# Altium schematic symbol library 45xx.SCHLIB: 116 symbols
Pins are listed as number, name and electrical type; pins without a type are passive.

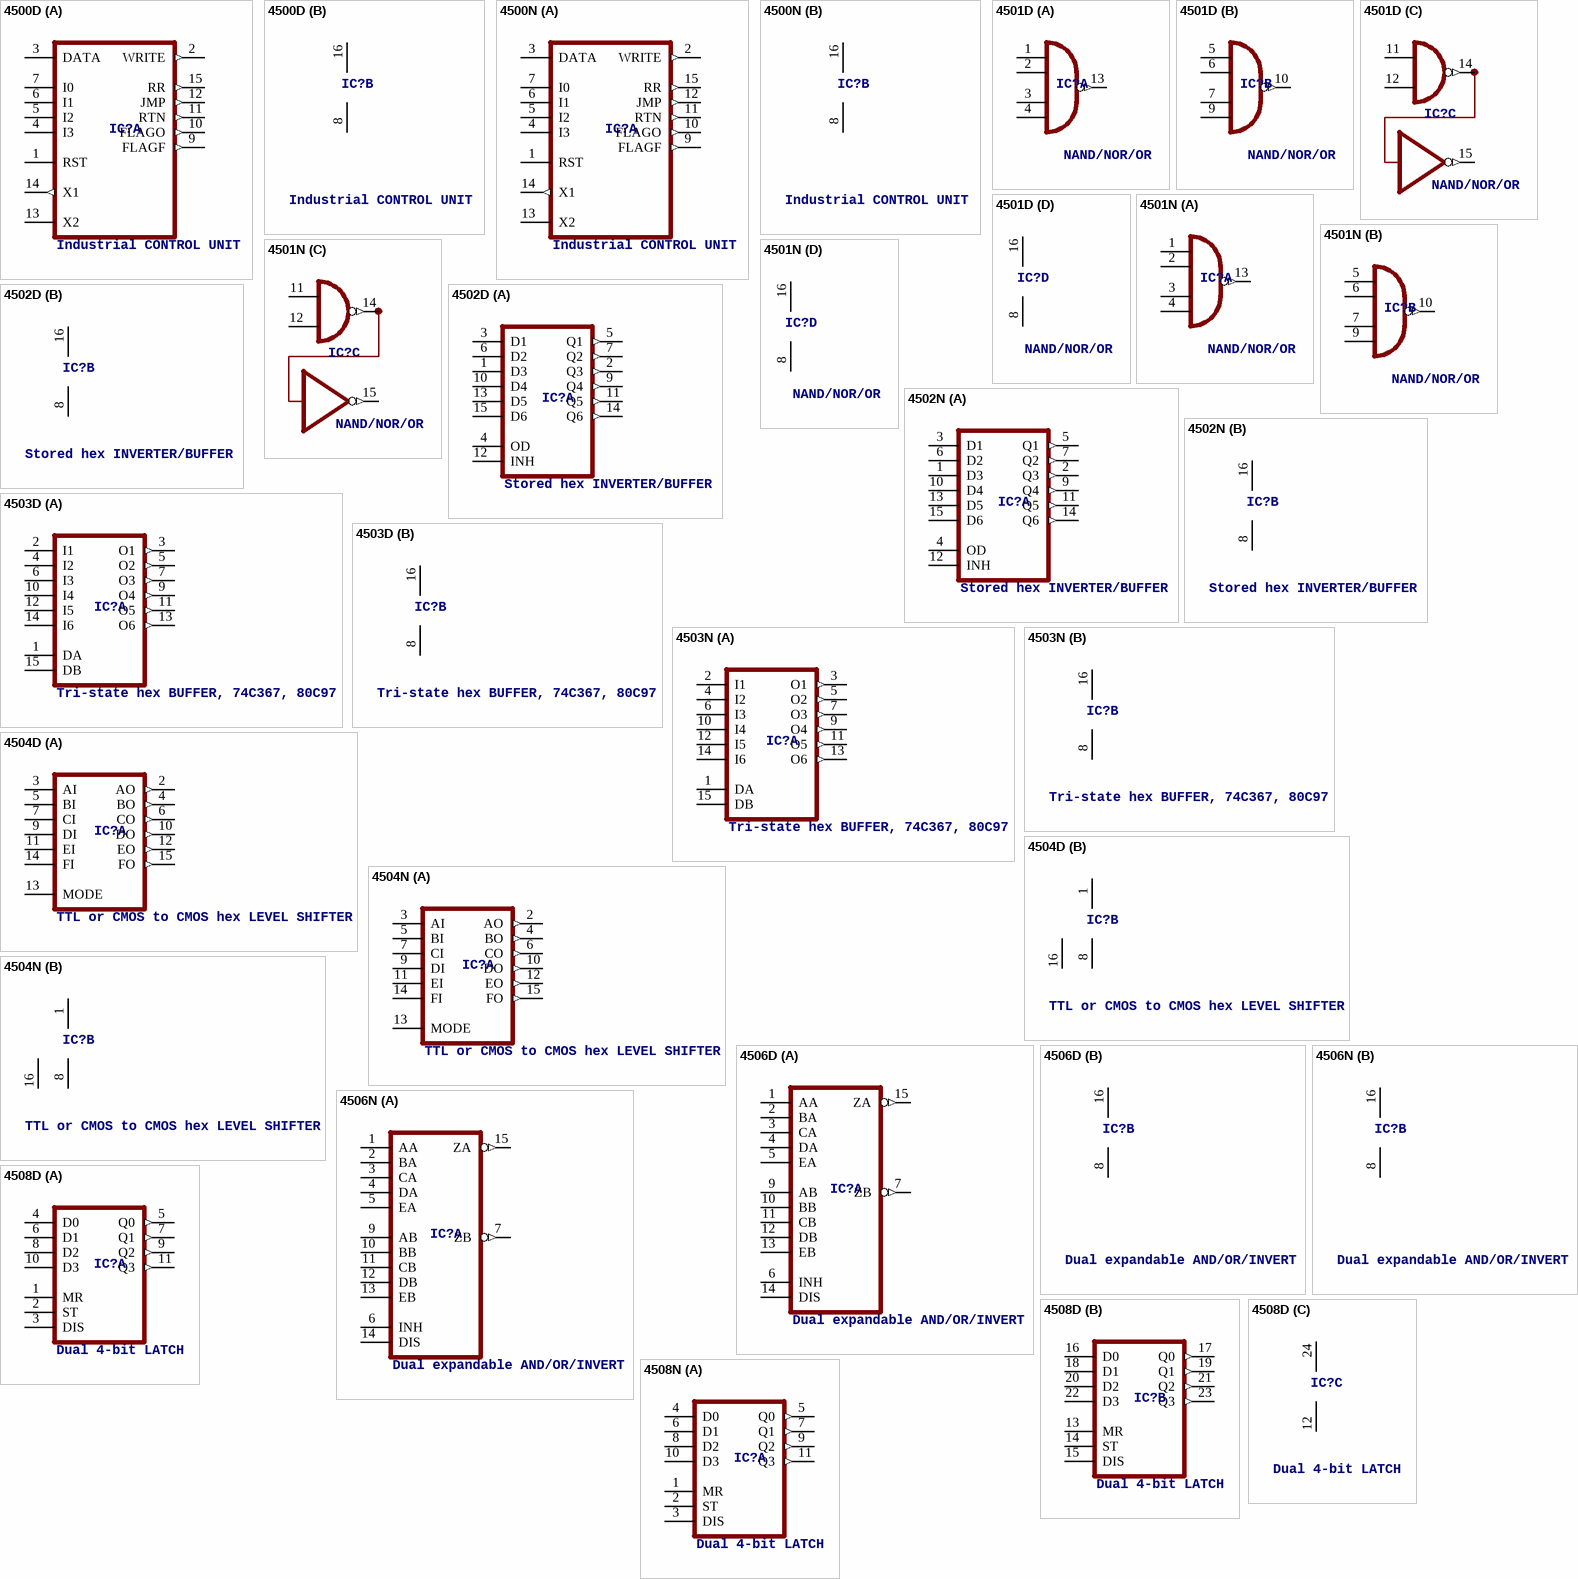
[diagram p0: symbols 4500D to 4508N]

## 4500D
designator IC?, comment Industrial CONTROL UNIT
footprint SO16
part A pins: 1 RST, 2 WRITE (out), 3 DATA, 4 I3, 5 I2, 6 I1, 7 I0, 9 FLAGF (out), 10 FLAGO (out), 11 RTN (out), 12 JMP (out), 13 X2, 14 X1 (out), 15 RR (out)
part B pins: 8 VSS (power), 16 VDD (power)

## 4500N
designator IC?, comment Industrial CONTROL UNIT
footprint DIL16
part A pins: 1 RST, 2 WRITE (out), 3 DATA, 4 I3, 5 I2, 6 I1, 7 I0, 9 FLAGF (out), 10 FLAGO (out), 11 RTN (out), 12 JMP (out), 13 X2, 14 X1 (out), 15 RR (out)
part B pins: 8 VSS (power), 16 VDD (power)

## 4501D
designator IC?, comment NAND/NOR/OR
footprint SO16
part A pins: 1 I0, 2 I1, 3 I2, 4 I3, 13 O (out)
part B pins: 5 I0, 6 I1, 7 I2, 9 I3, 10 O (out)
part C pins: 11 I0, 12 I1, 14 O1 (out), 15 O2 (out)
part D pins: 8 VSS (power), 16 VDD (power)

## 4501N
designator IC?, comment NAND/NOR/OR
footprint DIL16
part A pins: 1 I0, 2 I1, 3 I2, 4 I3, 13 O (out)
part B pins: 5 I0, 6 I1, 7 I2, 9 I3, 10 O (out)
part C pins: 11 I0, 12 I1, 14 O1 (out), 15 O2 (out)
part D pins: 8 VSS (power), 16 VDD (power)

## 4502D
designator IC?, comment Stored hex INVERTER/BUFFER
footprint SO16
part A pins: 1 D3, 2 Q3 (out), 3 D1, 4 OD, 5 Q1 (out), 6 D2, 7 Q2 (out), 9 Q4 (out), 10 D4, 11 Q5 (out), 12 INH, 13 D5, 14 Q6 (out), 15 D6
part B pins: 8 VSS (power), 16 VDD (power)

## 4502N
designator IC?, comment Stored hex INVERTER/BUFFER
footprint DIL16
part A pins: 1 D3, 2 Q3 (out), 3 D1, 4 OD, 5 Q1 (out), 6 D2, 7 Q2 (out), 9 Q4 (out), 10 D4, 11 Q5 (out), 12 INH, 13 D5, 14 Q6 (out), 15 D6
part B pins: 8 VSS (power), 16 VDD (power)

## 4503D
designator IC?, comment Tri-state hex BUFFER, 74C367, 80C97
footprint SO16
part A pins: 1 DA, 2 I1, 3 O1 (out), 4 I2, 5 O2 (out), 6 I3, 7 O3 (out), 9 O4 (out), 10 I4, 11 O5 (out), 12 I5, 13 O6 (out), 14 I6, 15 DB
part B pins: 8 VSS (power), 16 VDD (power)

## 4503N
designator IC?, comment Tri-state hex BUFFER, 74C367, 80C97
footprint DIL16
part A pins: 1 DA, 2 I1, 3 O1 (out), 4 I2, 5 O2 (out), 6 I3, 7 O3 (out), 9 O4 (out), 10 I4, 11 O5 (out), 12 I5, 13 O6 (out), 14 I6, 15 DB
part B pins: 8 VSS (power), 16 VDD (power)

## 4504D
designator IC?, comment TTL or CMOS to CMOS hex LEVEL SHIFTER
footprint SO16
part A pins: 2 AO (out), 3 AI, 4 BO (out), 5 BI, 6 CO (out), 7 CI, 9 DI, 10 DO (out), 11 EI, 12 EO (out), 13 MODE, 14 FI, 15 FO (out)
part B pins: 1 VCC (power), 8 GND (power), 16 VDD (power)

## 4504N
designator IC?, comment TTL or CMOS to CMOS hex LEVEL SHIFTER
footprint DIL16
part A pins: 2 AO (out), 3 AI, 4 BO (out), 5 BI, 6 CO (out), 7 CI, 9 DI, 10 DO (out), 11 EI, 12 EO (out), 13 MODE, 14 FI, 15 FO (out)
part B pins: 1 VCC (power), 8 GND (power), 16 VDD (power)

## 4506D
designator IC?, comment Dual expandable AND/OR/INVERT
footprint SO16
part A pins: 1 AA, 2 BA, 3 CA, 4 DA, 5 EA, 6 INH, 7 ZB (out), 9 AB, 10 BB, 11 CB, 12 DB, 13 EB, 14 DIS, 15 ZA (out)
part B pins: 8 VSS (power), 16 VDD (power)

## 4506N
designator IC?, comment Dual expandable AND/OR/INVERT
footprint DIL16
part A pins: 1 AA, 2 BA, 3 CA, 4 DA, 5 EA, 6 INH, 7 ZB (out), 9 AB, 10 BB, 11 CB, 12 DB, 13 EB, 14 DIS, 15 ZA (out)
part B pins: 8 VSS (power), 16 VDD (power)

## 4508D
designator IC?, comment Dual 4-bit LATCH
footprint SO24W
part A pins: 1 MR, 2 ST, 3 DIS, 4 D0, 5 Q0 (out), 6 D1, 7 Q1 (out), 8 D2, 9 Q2 (out), 10 D3, 11 Q3 (out)
part B pins: 13 MR, 14 ST, 15 DIS, 16 D0, 17 Q0 (out), 18 D1, 19 Q1 (out), 20 D2, 21 Q2 (out), 22 D3, 23 Q3 (out)
part C pins: 12 VSS (power), 24 VDD (power)

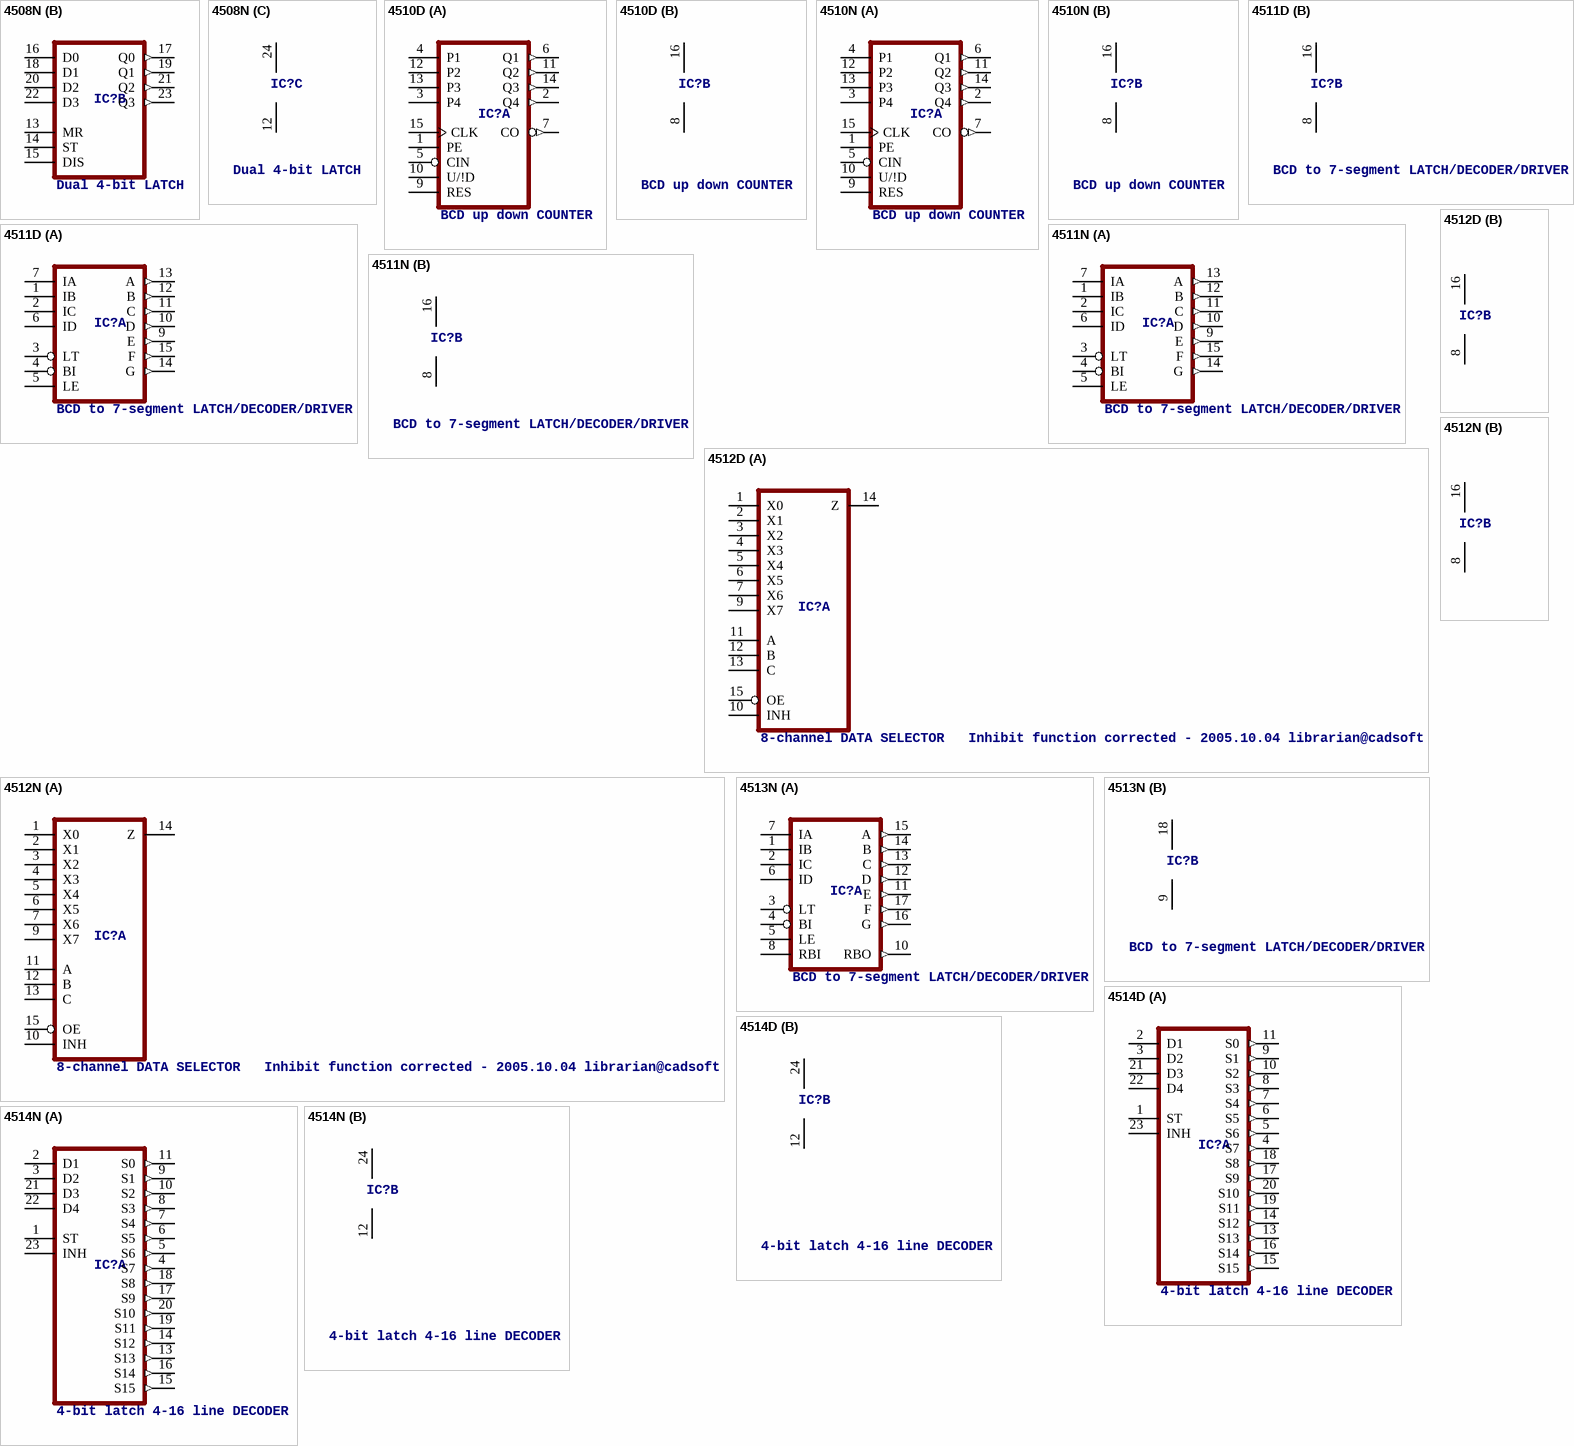
[diagram p1: symbols 4508N to 4514N]

## 4508N
designator IC?, comment Dual 4-bit LATCH
footprint DIL24-6
part A pins: 1 MR, 2 ST, 3 DIS, 4 D0, 5 Q0 (out), 6 D1, 7 Q1 (out), 8 D2, 9 Q2 (out), 10 D3, 11 Q3 (out)
part B pins: 13 MR, 14 ST, 15 DIS, 16 D0, 17 Q0 (out), 18 D1, 19 Q1 (out), 20 D2, 21 Q2 (out), 22 D3, 23 Q3 (out)
part C pins: 12 VSS (power), 24 VDD (power)

## 4510D
designator IC?, comment BCD up down COUNTER
footprint SO16
part A pins: 1 PE, 2 Q4 (out), 3 P4, 4 P1, 5 CIN, 6 Q1 (out), 7 CO (out), 9 RES, 10 U/!D, 11 Q2 (out), 12 P2, 13 P3, 14 Q3 (out), 15 CLK
part B pins: 8 VSS (power), 16 VDD (power)

## 4510N
designator IC?, comment BCD up down COUNTER
footprint DIL16
part A pins: 1 PE, 2 Q4 (out), 3 P4, 4 P1, 5 CIN, 6 Q1 (out), 7 CO (out), 9 RES, 10 U/!D, 11 Q2 (out), 12 P2, 13 P3, 14 Q3 (out), 15 CLK
part B pins: 8 VSS (power), 16 VDD (power)

## 4511D
designator IC?, comment BCD to 7-segment LATCH/DECODER/DRIVER
footprint SO16
part A pins: 1 IB, 2 IC, 3 LT, 4 BI, 5 LE, 6 ID, 7 IA, 9 E (out), 10 D (out), 11 C (out), 12 B (out), 13 A (out), 14 G (out), 15 F (out)
part B pins: 8 VSS (power), 16 VDD (power)

## 4511N
designator IC?, comment BCD to 7-segment LATCH/DECODER/DRIVER
footprint DIL16
part A pins: 1 IB, 2 IC, 3 LT, 4 BI, 5 LE, 6 ID, 7 IA, 9 E (out), 10 D (out), 11 C (out), 12 B (out), 13 A (out), 14 G (out), 15 F (out)
part B pins: 8 VSS (power), 16 VDD (power)

## 4512D
designator IC?, comment 8-channel DATA SELECTOR   Inhibit function corrected - 2005.10.04 librarian@cadsoft.de
footprint SO16
part A pins: 1 X0, 2 X1, 3 X2, 4 X3, 5 X4, 6 X5, 7 X6, 9 X7, 10 INH, 11 A, 12 B, 13 C, 14 Z (hiz), 15 OE
part B pins: 8 VSS (power), 16 VDD (power)

## 4512N
designator IC?, comment 8-channel DATA SELECTOR   Inhibit function corrected - 2005.10.04 librarian@cadsoft.de
footprint DIL16
part A pins: 1 X0, 2 X1, 3 X2, 4 X3, 5 X4, 6 X5, 7 X6, 9 X7, 10 INH, 11 A, 12 B, 13 C, 14 Z (hiz), 15 OE
part B pins: 8 VSS (power), 16 VDD (power)

## 4513N
designator IC?, comment BCD to 7-segment LATCH/DECODER/DRIVER
footprint DIL18
part A pins: 1 IB, 2 IC, 3 LT, 4 BI, 5 LE, 6 ID, 7 IA, 8 RBI, 10 RBO (out), 11 E (out), 12 D (out), 13 C (out), 14 B (out), 15 A (out), 16 G (out), 17 F (out)
part B pins: 9 VSS (power), 18 VDD (power)

## 4514D
designator IC?, comment 4-bit latch 4-16 line DECODER
footprint SO24W
part A pins: 1 ST, 2 D1, 3 D2, 4 S7 (out), 5 S6 (out), 6 S5 (out), 7 S4 (out), 8 S3 (out), 9 S1 (out), 10 S2 (out), 11 S0 (out), 13 S13 (out), 14 S12 (out), 15 S15 (out), 16 S14 (out), 17 S9 (out), 18 S8 (out), 19 S11 (out), 20 S10 (out), 21 D3, 22 D4, 23 INH
part B pins: 12 VSS (power), 24 VDD (power)

## 4514N
designator IC?, comment 4-bit latch 4-16 line DECODER
footprint DIL24-6
part A pins: 1 ST, 2 D1, 3 D2, 4 S7 (out), 5 S6 (out), 6 S5 (out), 7 S4 (out), 8 S3 (out), 9 S1 (out), 10 S2 (out), 11 S0 (out), 13 S13 (out), 14 S12 (out), 15 S15 (out), 16 S14 (out), 17 S9 (out), 18 S8 (out), 19 S11 (out), 20 S10 (out), 21 D3, 22 D4, 23 INH
part B pins: 12 VSS (power), 24 VDD (power)

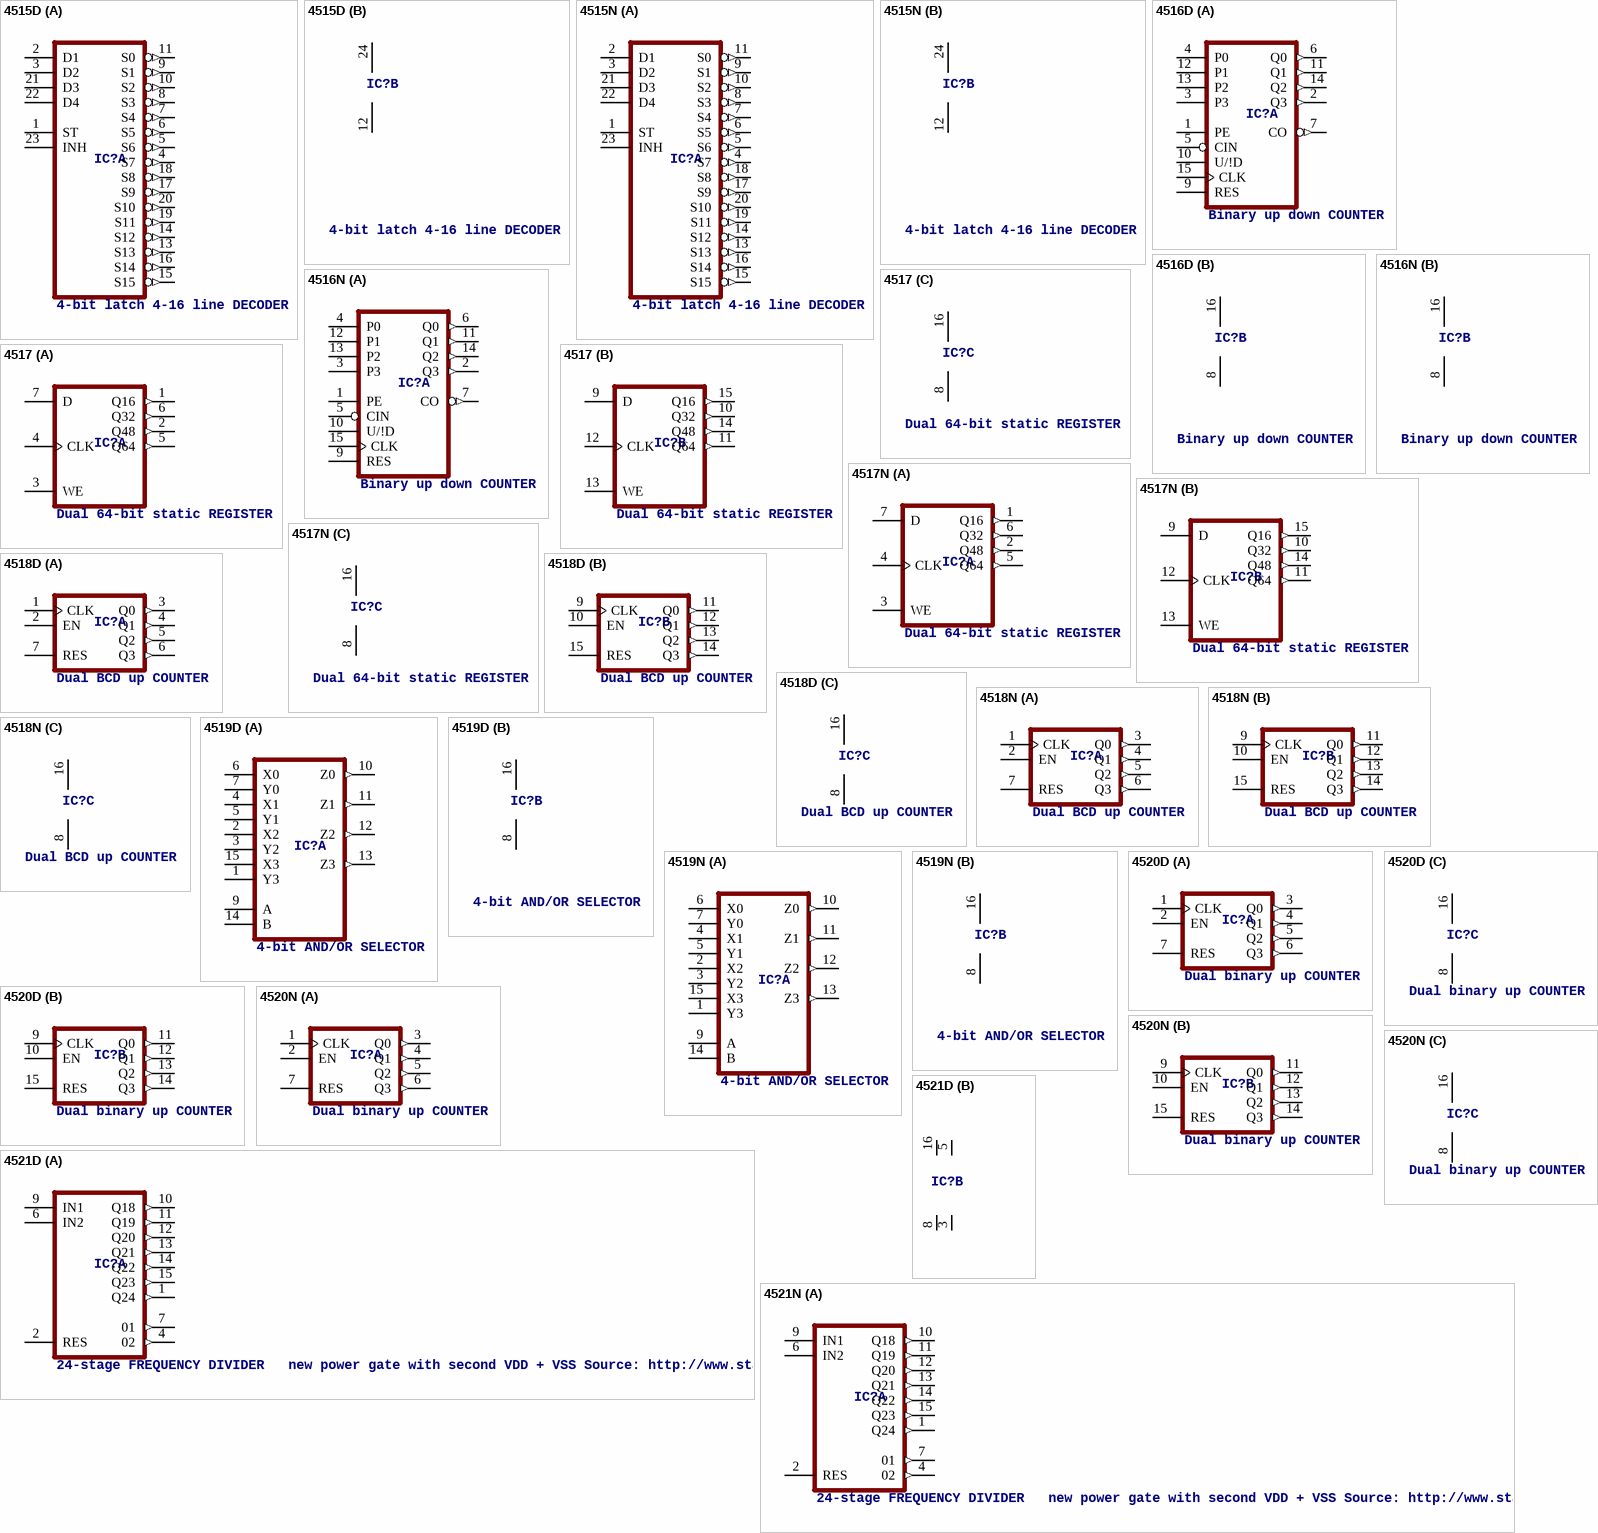
[diagram p2: symbols 4515D to 4521N]

## 4515D
designator IC?, comment 4-bit latch 4-16 line DECODER
footprint SO24W
part A pins: 1 ST, 2 D1, 3 D2, 4 S7 (out), 5 S6 (out), 6 S5 (out), 7 S4 (out), 8 S3 (out), 9 S1 (out), 10 S2 (out), 11 S0 (out), 13 S13 (out), 14 S12 (out), 15 S15 (out), 16 S14 (out), 17 S9 (out), 18 S8 (out), 19 S11 (out), 20 S10 (out), 21 D3, 22 D4, 23 INH
part B pins: 12 VSS (power), 24 VDD (power)

## 4515N
designator IC?, comment 4-bit latch 4-16 line DECODER
footprint DIL24-6
part A pins: 1 ST, 2 D1, 3 D2, 4 S7 (out), 5 S6 (out), 6 S5 (out), 7 S4 (out), 8 S3 (out), 9 S1 (out), 10 S2 (out), 11 S0 (out), 13 S13 (out), 14 S12 (out), 15 S15 (out), 16 S14 (out), 17 S9 (out), 18 S8 (out), 19 S11 (out), 20 S10 (out), 21 D3, 22 D4, 23 INH
part B pins: 12 VSS (power), 24 VDD (power)

## 4516D
designator IC?, comment Binary up down COUNTER
footprint SO16
part A pins: 1 PE, 2 Q3 (out), 3 P3, 4 P0, 5 CIN, 6 Q0 (out), 7 CO (out), 9 RES, 10 U/!D, 11 Q1 (out), 12 P1, 13 P2, 14 Q2 (out), 15 CLK
part B pins: 8 VSS (power), 16 VDD (power)

## 4516N
designator IC?, comment Binary up down COUNTER
footprint DIL16
part A pins: 1 PE, 2 Q3 (out), 3 P3, 4 P0, 5 CIN, 6 Q0 (out), 7 CO (out), 9 RES, 10 U/!D, 11 Q1 (out), 12 P1, 13 P2, 14 Q2 (out), 15 CLK
part B pins: 8 VSS (power), 16 VDD (power)

## 4517
designator IC?, comment Dual 64-bit static REGISTER
footprint SO16
part A pins: 1 Q16 (out), 2 Q48 (out), 3 WE, 4 CLK, 5 Q64 (out), 6 Q32 (out), 7 D
part B pins: 9 D, 10 Q32 (out), 11 Q64 (out), 12 CLK, 13 WE, 14 Q48 (out), 15 Q16 (out)
part C pins: 8 VSS (power), 16 VDD (power)

## 4517N
designator IC?, comment Dual 64-bit static REGISTER
footprint DIL16
part A pins: 1 Q16 (out), 2 Q48 (out), 3 WE, 4 CLK, 5 Q64 (out), 6 Q32 (out), 7 D
part B pins: 9 D, 10 Q32 (out), 11 Q64 (out), 12 CLK, 13 WE, 14 Q48 (out), 15 Q16 (out)
part C pins: 8 VSS (power), 16 VDD (power)

## 4518D
designator IC?, comment Dual BCD up COUNTER
footprint SO16
part A pins: 1 CLK, 2 EN, 3 Q0 (out), 4 Q1 (out), 5 Q2 (out), 6 Q3 (out), 7 RES
part B pins: 9 CLK, 10 EN, 11 Q0 (out), 12 Q1 (out), 13 Q2 (out), 14 Q3 (out), 15 RES
part C pins: 8 VSS (power), 16 VDD (power)

## 4518N
designator IC?, comment Dual BCD up COUNTER
footprint DIL16
part A pins: 1 CLK, 2 EN, 3 Q0 (out), 4 Q1 (out), 5 Q2 (out), 6 Q3 (out), 7 RES
part B pins: 9 CLK, 10 EN, 11 Q0 (out), 12 Q1 (out), 13 Q2 (out), 14 Q3 (out), 15 RES
part C pins: 8 VSS (power), 16 VDD (power)

## 4519D
designator IC?, comment 4-bit AND/OR SELECTOR
footprint SO16
part A pins: 1 Y3, 2 X2, 3 Y2, 4 X1, 5 Y1, 6 X0, 7 Y0, 9 A, 10 Z0 (out), 11 Z1 (out), 12 Z2 (out), 13 Z3 (out), 14 B, 15 X3
part B pins: 8 VSS (power), 16 VDD (power)

## 4519N
designator IC?, comment 4-bit AND/OR SELECTOR
footprint DIL16
part A pins: 1 Y3, 2 X2, 3 Y2, 4 X1, 5 Y1, 6 X0, 7 Y0, 9 A, 10 Z0 (out), 11 Z1 (out), 12 Z2 (out), 13 Z3 (out), 14 B, 15 X3
part B pins: 8 VSS (power), 16 VDD (power)

## 4520D
designator IC?, comment Dual binary up COUNTER
footprint SO16
part A pins: 1 CLK, 2 EN, 3 Q0 (out), 4 Q1 (out), 5 Q2 (out), 6 Q3 (out), 7 RES
part B pins: 9 CLK, 10 EN, 11 Q0 (out), 12 Q1 (out), 13 Q2 (out), 14 Q3 (out), 15 RES
part C pins: 8 VSS (power), 16 VDD (power)

## 4520N
designator IC?, comment Dual binary up COUNTER
footprint DIL16
part A pins: 1 CLK, 2 EN, 3 Q0 (out), 4 Q1 (out), 5 Q2 (out), 6 Q3 (out), 7 RES
part B pins: 9 CLK, 10 EN, 11 Q0 (out), 12 Q1 (out), 13 Q2 (out), 14 Q3 (out), 15 RES
part C pins: 8 VSS (power), 16 VDD (power)

## 4521D
designator IC?, comment 24-stage FREQUENCY DIVIDER   new power gate with second VDD + VSS Source: http://www.standardics.nxp.com/products/hef/datasheet/hef4521b.pdf
footprint SO16
part A pins: 1 Q24 (out), 2 RES, 4 02 (out), 6 IN2, 7 01 (out), 9 IN1, 10 Q18 (out), 11 Q19 (out), 12 Q20 (out), 13 Q21 (out), 14 Q22 (out), 15 Q23 (out)
part B pins: 3 VSS@1 (power), 5 VDD@1 (power), 8 VSS (power), 16 VDD (power)

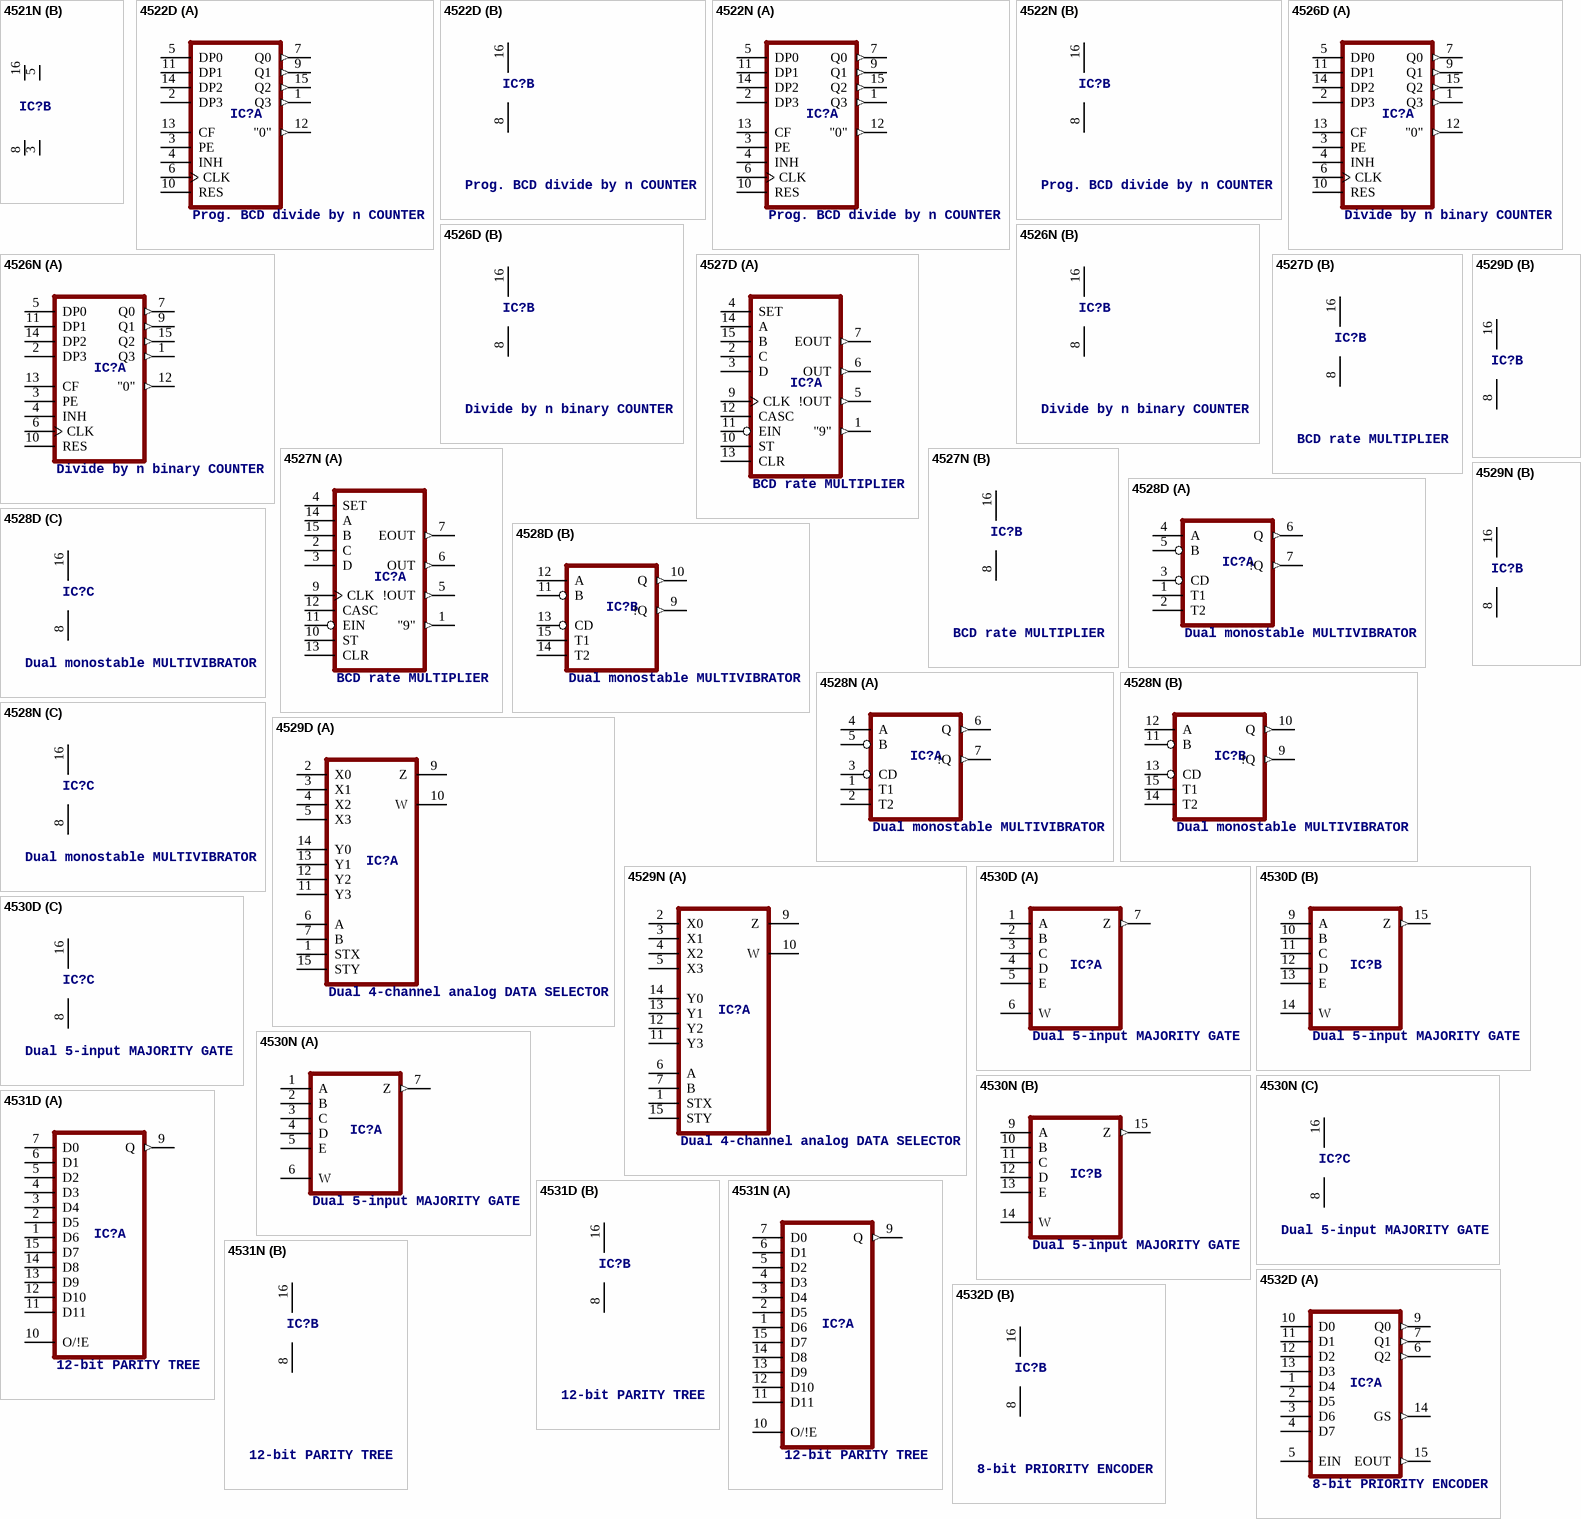
[diagram p3: symbols 4521N to 4532D]

## 4521N
designator IC?, comment 24-stage FREQUENCY DIVIDER   new power gate with second VDD + VSS Source: http://www.standardics.nxp.com/products/hef/datasheet/hef4521b.pdf
footprint DIL16
part A pins: 1 Q24 (out), 2 RES, 4 02 (out), 6 IN2, 7 01 (out), 9 IN1, 10 Q18 (out), 11 Q19 (out), 12 Q20 (out), 13 Q21 (out), 14 Q22 (out), 15 Q23 (out)
part B pins: 3 VSS@1 (power), 5 VDD@1 (power), 8 VSS (power), 16 VDD (power)

## 4522D
designator IC?, comment Prog. BCD divide by n COUNTER
footprint SO16
part A pins: 1 Q3 (out), 2 DP3, 3 PE, 4 INH, 5 DP0, 6 CLK, 7 Q0 (out), 9 Q1 (out), 10 RES, 11 DP1, 12 "0" (out), 13 CF, 14 DP2, 15 Q2 (out)
part B pins: 8 VSS (power), 16 VDD (power)

## 4522N
designator IC?, comment Prog. BCD divide by n COUNTER
footprint DIL16
part A pins: 1 Q3 (out), 2 DP3, 3 PE, 4 INH, 5 DP0, 6 CLK, 7 Q0 (out), 9 Q1 (out), 10 RES, 11 DP1, 12 "0" (out), 13 CF, 14 DP2, 15 Q2 (out)
part B pins: 8 VSS (power), 16 VDD (power)

## 4526D
designator IC?, comment Divide by n binary COUNTER
footprint SO16
part A pins: 1 Q3 (out), 2 DP3, 3 PE, 4 INH, 5 DP0, 6 CLK, 7 Q0 (out), 9 Q1 (out), 10 RES, 11 DP1, 12 "0" (out), 13 CF, 14 DP2, 15 Q2 (out)
part B pins: 8 VSS (power), 16 VDD (power)

## 4526N
designator IC?, comment Divide by n binary COUNTER
footprint DIL16
part A pins: 1 Q3 (out), 2 DP3, 3 PE, 4 INH, 5 DP0, 6 CLK, 7 Q0 (out), 9 Q1 (out), 10 RES, 11 DP1, 12 "0" (out), 13 CF, 14 DP2, 15 Q2 (out)
part B pins: 8 VSS (power), 16 VDD (power)

## 4527D
designator IC?, comment BCD rate MULTIPLIER
footprint SO16
part A pins: 1 "9" (out), 2 C, 3 D, 4 SET, 5 !OUT (out), 6 OUT (out), 7 EOUT (out), 9 CLK, 10 ST, 11 EIN, 12 CASC, 13 CLR, 14 A, 15 B
part B pins: 8 VSS (power), 16 VDD (power)

## 4527N
designator IC?, comment BCD rate MULTIPLIER
footprint DIL16
part A pins: 1 "9" (out), 2 C, 3 D, 4 SET, 5 !OUT (out), 6 OUT (out), 7 EOUT (out), 9 CLK, 10 ST, 11 EIN, 12 CASC, 13 CLR, 14 A, 15 B
part B pins: 8 VSS (power), 16 VDD (power)

## 4528D
designator IC?, comment Dual monostable MULTIVIBRATOR
footprint SO16
part A pins: 1 T1, 2 T2, 3 CD, 4 A, 5 B, 6 Q (out), 7 !Q (out)
part B pins: 9 !Q (out), 10 Q (out), 11 B, 12 A, 13 CD, 14 T2, 15 T1
part C pins: 8 VSS (power), 16 VDD (power)

## 4528N
designator IC?, comment Dual monostable MULTIVIBRATOR
footprint DIL16
part A pins: 1 T1, 2 T2, 3 CD, 4 A, 5 B, 6 Q (out), 7 !Q (out)
part B pins: 9 !Q (out), 10 Q (out), 11 B, 12 A, 13 CD, 14 T2, 15 T1
part C pins: 8 VSS (power), 16 VDD (power)

## 4529D
designator IC?, comment Dual 4-channel analog DATA SELECTOR
footprint SO16
part A pins: 1 STX, 2 X0, 3 X1, 4 X2, 5 X3, 6 A, 7 B, 9 Z (hiz), 10 W (hiz), 11 Y3, 12 Y2, 13 Y1, 14 Y0, 15 STY
part B pins: 8 VSS (power), 16 VDD (power)

## 4529N
designator IC?, comment Dual 4-channel analog DATA SELECTOR
footprint DIL16
part A pins: 1 STX, 2 X0, 3 X1, 4 X2, 5 X3, 6 A, 7 B, 9 Z (hiz), 10 W (hiz), 11 Y3, 12 Y2, 13 Y1, 14 Y0, 15 STY
part B pins: 8 VSS (power), 16 VDD (power)

## 4530D
designator IC?, comment Dual 5-input MAJORITY GATE
footprint SO16
part A pins: 1 A, 2 B, 3 C, 4 D, 5 E, 6 W, 7 Z (out)
part B pins: 9 A, 10 B, 11 C, 12 D, 13 E, 14 W, 15 Z (out)
part C pins: 8 VSS (power), 16 VDD (power)

## 4530N
designator IC?, comment Dual 5-input MAJORITY GATE
footprint DIL16
part A pins: 1 A, 2 B, 3 C, 4 D, 5 E, 6 W, 7 Z (out)
part B pins: 9 A, 10 B, 11 C, 12 D, 13 E, 14 W, 15 Z (out)
part C pins: 8 VSS (power), 16 VDD (power)

## 4531D
designator IC?, comment 12-bit PARITY TREE
footprint SO16
part A pins: 1 D6, 2 D5, 3 D4, 4 D3, 5 D2, 6 D1, 7 D0, 9 Q (out), 10 O/!E, 11 D11, 12 D10, 13 D9, 14 D8, 15 D7
part B pins: 8 VSS (power), 16 VDD (power)

## 4531N
designator IC?, comment 12-bit PARITY TREE
footprint DIL16
part A pins: 1 D6, 2 D5, 3 D4, 4 D3, 5 D2, 6 D1, 7 D0, 9 Q (out), 10 O/!E, 11 D11, 12 D10, 13 D9, 14 D8, 15 D7
part B pins: 8 VSS (power), 16 VDD (power)

## 4532D
designator IC?, comment 8-bit PRIORITY ENCODER
footprint SO16
part A pins: 1 D4, 2 D5, 3 D6, 4 D7, 5 EIN, 6 Q2 (out), 7 Q1 (out), 9 Q0 (out), 10 D0, 11 D1, 12 D2, 13 D3, 14 GS (out), 15 EOUT (out)
part B pins: 8 VSS (power), 16 VDD (power)

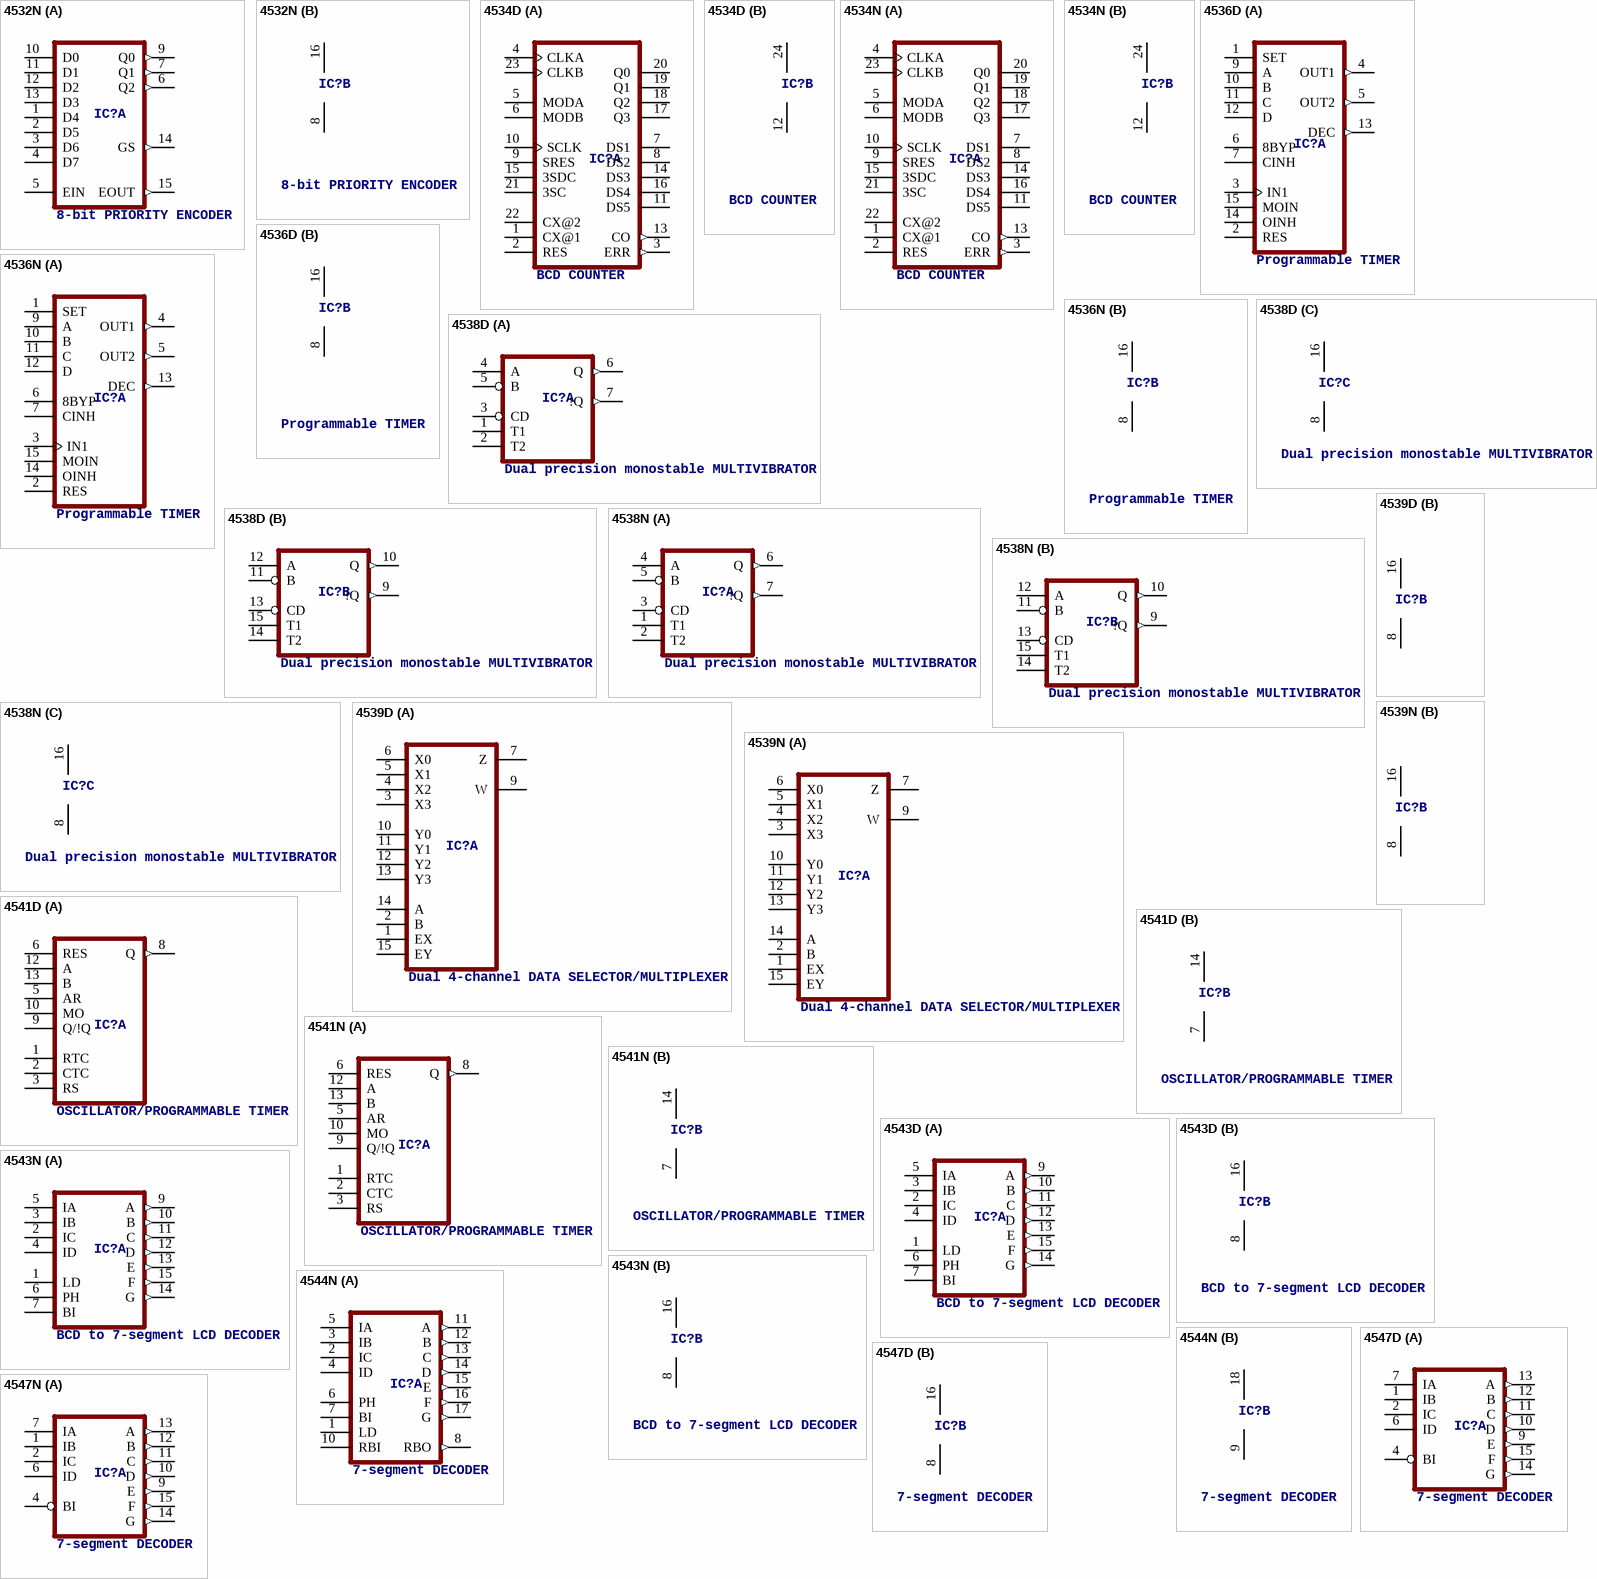
[diagram p4: symbols 4532N to 4547N]

## 4532N
designator IC?, comment 8-bit PRIORITY ENCODER
footprint DIL16
part A pins: 1 D4, 2 D5, 3 D6, 4 D7, 5 EIN, 6 Q2 (out), 7 Q1 (out), 9 Q0 (out), 10 D0, 11 D1, 12 D2, 13 D3, 14 GS (out), 15 EOUT (out)
part B pins: 8 VSS (power), 16 VDD (power)

## 4534D
designator IC?, comment BCD COUNTER
footprint SO24W
part A pins: 1 CX@1, 2 RES, 3 ERR (out), 4 CLKA, 5 MODA, 6 MODB, 7 DS1 (hiz), 8 DS2 (hiz), 9 SRES, 10 SCLK, 11 DS5 (hiz), 13 CO (out), 14 DS3 (hiz), 15 3SDC, 16 DS4 (hiz), 17 Q3 (hiz), 18 Q2 (hiz), 19 Q1 (hiz), 20 Q0 (hiz), 21 3SC, 22 CX@2, 23 CLKB
part B pins: 12 VSS (power), 24 VDD (power)

## 4534N
designator IC?, comment BCD COUNTER
footprint DIL24-6
part A pins: 1 CX@1, 2 RES, 3 ERR (out), 4 CLKA, 5 MODA, 6 MODB, 7 DS1 (hiz), 8 DS2 (hiz), 9 SRES, 10 SCLK, 11 DS5 (hiz), 13 CO (out), 14 DS3 (hiz), 15 3SDC, 16 DS4 (hiz), 17 Q3 (hiz), 18 Q2 (hiz), 19 Q1 (hiz), 20 Q0 (hiz), 21 3SC, 22 CX@2, 23 CLKB
part B pins: 12 VSS (power), 24 VDD (power)

## 4536D
designator IC?, comment Programmable TIMER
footprint SO16
part A pins: 1 SET, 2 RES, 3 IN1, 4 OUT1 (out), 5 OUT2 (out), 6 8BYP, 7 CINH, 9 A, 10 B, 11 C, 12 D, 13 DEC (out), 14 OINH, 15 MOIN
part B pins: 8 VSS (power), 16 VDD (power)

## 4536N
designator IC?, comment Programmable TIMER
footprint DIL16
part A pins: 1 SET, 2 RES, 3 IN1, 4 OUT1 (out), 5 OUT2 (out), 6 8BYP, 7 CINH, 9 A, 10 B, 11 C, 12 D, 13 DEC (out), 14 OINH, 15 MOIN
part B pins: 8 VSS (power), 16 VDD (power)

## 4538D
designator IC?, comment Dual precision monostable MULTIVIBRATOR
footprint SO16
part A pins: 1 T1, 2 T2, 3 CD, 4 A, 5 B, 6 Q (out), 7 !Q (out)
part B pins: 9 !Q (out), 10 Q (out), 11 B, 12 A, 13 CD, 14 T2, 15 T1
part C pins: 8 VSS (power), 16 VDD (power)

## 4538N
designator IC?, comment Dual precision monostable MULTIVIBRATOR
footprint DIL16
part A pins: 1 T1, 2 T2, 3 CD, 4 A, 5 B, 6 Q (out), 7 !Q (out)
part B pins: 9 !Q (out), 10 Q (out), 11 B, 12 A, 13 CD, 14 T2, 15 T1
part C pins: 8 VSS (power), 16 VDD (power)

## 4539D
designator IC?, comment Dual 4-channel DATA SELECTOR/MULTIPLEXER
footprint SO16
part A pins: 1 EX, 2 B, 3 X3, 4 X2, 5 X1, 6 X0, 7 Z (hiz), 9 W (hiz), 10 Y0, 11 Y1, 12 Y2, 13 Y3, 14 A, 15 EY
part B pins: 8 VSS (power), 16 VDD (power)

## 4539N
designator IC?, comment Dual 4-channel DATA SELECTOR/MULTIPLEXER
footprint DIL16
part A pins: 1 EX, 2 B, 3 X3, 4 X2, 5 X1, 6 X0, 7 Z (hiz), 9 W (hiz), 10 Y0, 11 Y1, 12 Y2, 13 Y3, 14 A, 15 EY
part B pins: 8 VSS (power), 16 VDD (power)

## 4541D
designator IC?, comment OSCILLATOR/PROGRAMMABLE TIMER
footprint SO14
part A pins: 1 RTC, 2 CTC, 3 RS, 5 AR, 6 RES, 8 Q (out), 9 Q/!Q, 10 MO, 12 A, 13 B
part B pins: 7 VSS (power), 14 VDD (power)

## 4541N
designator IC?, comment OSCILLATOR/PROGRAMMABLE TIMER
footprint DIL14
part A pins: 1 RTC, 2 CTC, 3 RS, 5 AR, 6 RES, 8 Q (out), 9 Q/!Q, 10 MO, 12 A, 13 B
part B pins: 7 VSS (power), 14 VDD (power)

## 4543D
designator IC?, comment BCD to 7-segment LCD DECODER
footprint SO16
part A pins: 1 LD, 2 IC, 3 IB, 4 ID, 5 IA, 6 PH, 7 BI, 9 A (out), 10 B (out), 11 C (out), 12 D (out), 13 E (out), 14 G (out), 15 F (out)
part B pins: 8 VSS (power), 16 VDD (power)

## 4543N
designator IC?, comment BCD to 7-segment LCD DECODER
footprint DIL16
part A pins: 1 LD, 2 IC, 3 IB, 4 ID, 5 IA, 6 PH, 7 BI, 9 A (out), 10 B (out), 11 C (out), 12 D (out), 13 E (out), 14 G (out), 15 F (out)
part B pins: 8 VSS (power), 16 VDD (power)

## 4544N
designator IC?, comment 7-segment DECODER
footprint DIL18
part A pins: 1 LD, 2 IC, 3 IB, 4 ID, 5 IA, 6 PH, 7 BI, 8 RBO (out), 10 RBI, 11 A (out), 12 B (out), 13 C (out), 14 D (out), 15 E (out), 16 F (out), 17 G (out)
part B pins: 9 VSS (power), 18 VDD (power)

## 4547D
designator IC?, comment 7-segment DECODER
footprint SO16
part A pins: 1 IB, 2 IC, 4 BI, 6 ID, 7 IA, 9 E (out), 10 D (out), 11 C (out), 12 B (out), 13 A (out), 14 G (out), 15 F (out)
part B pins: 8 VSS (power), 16 VDD (power)

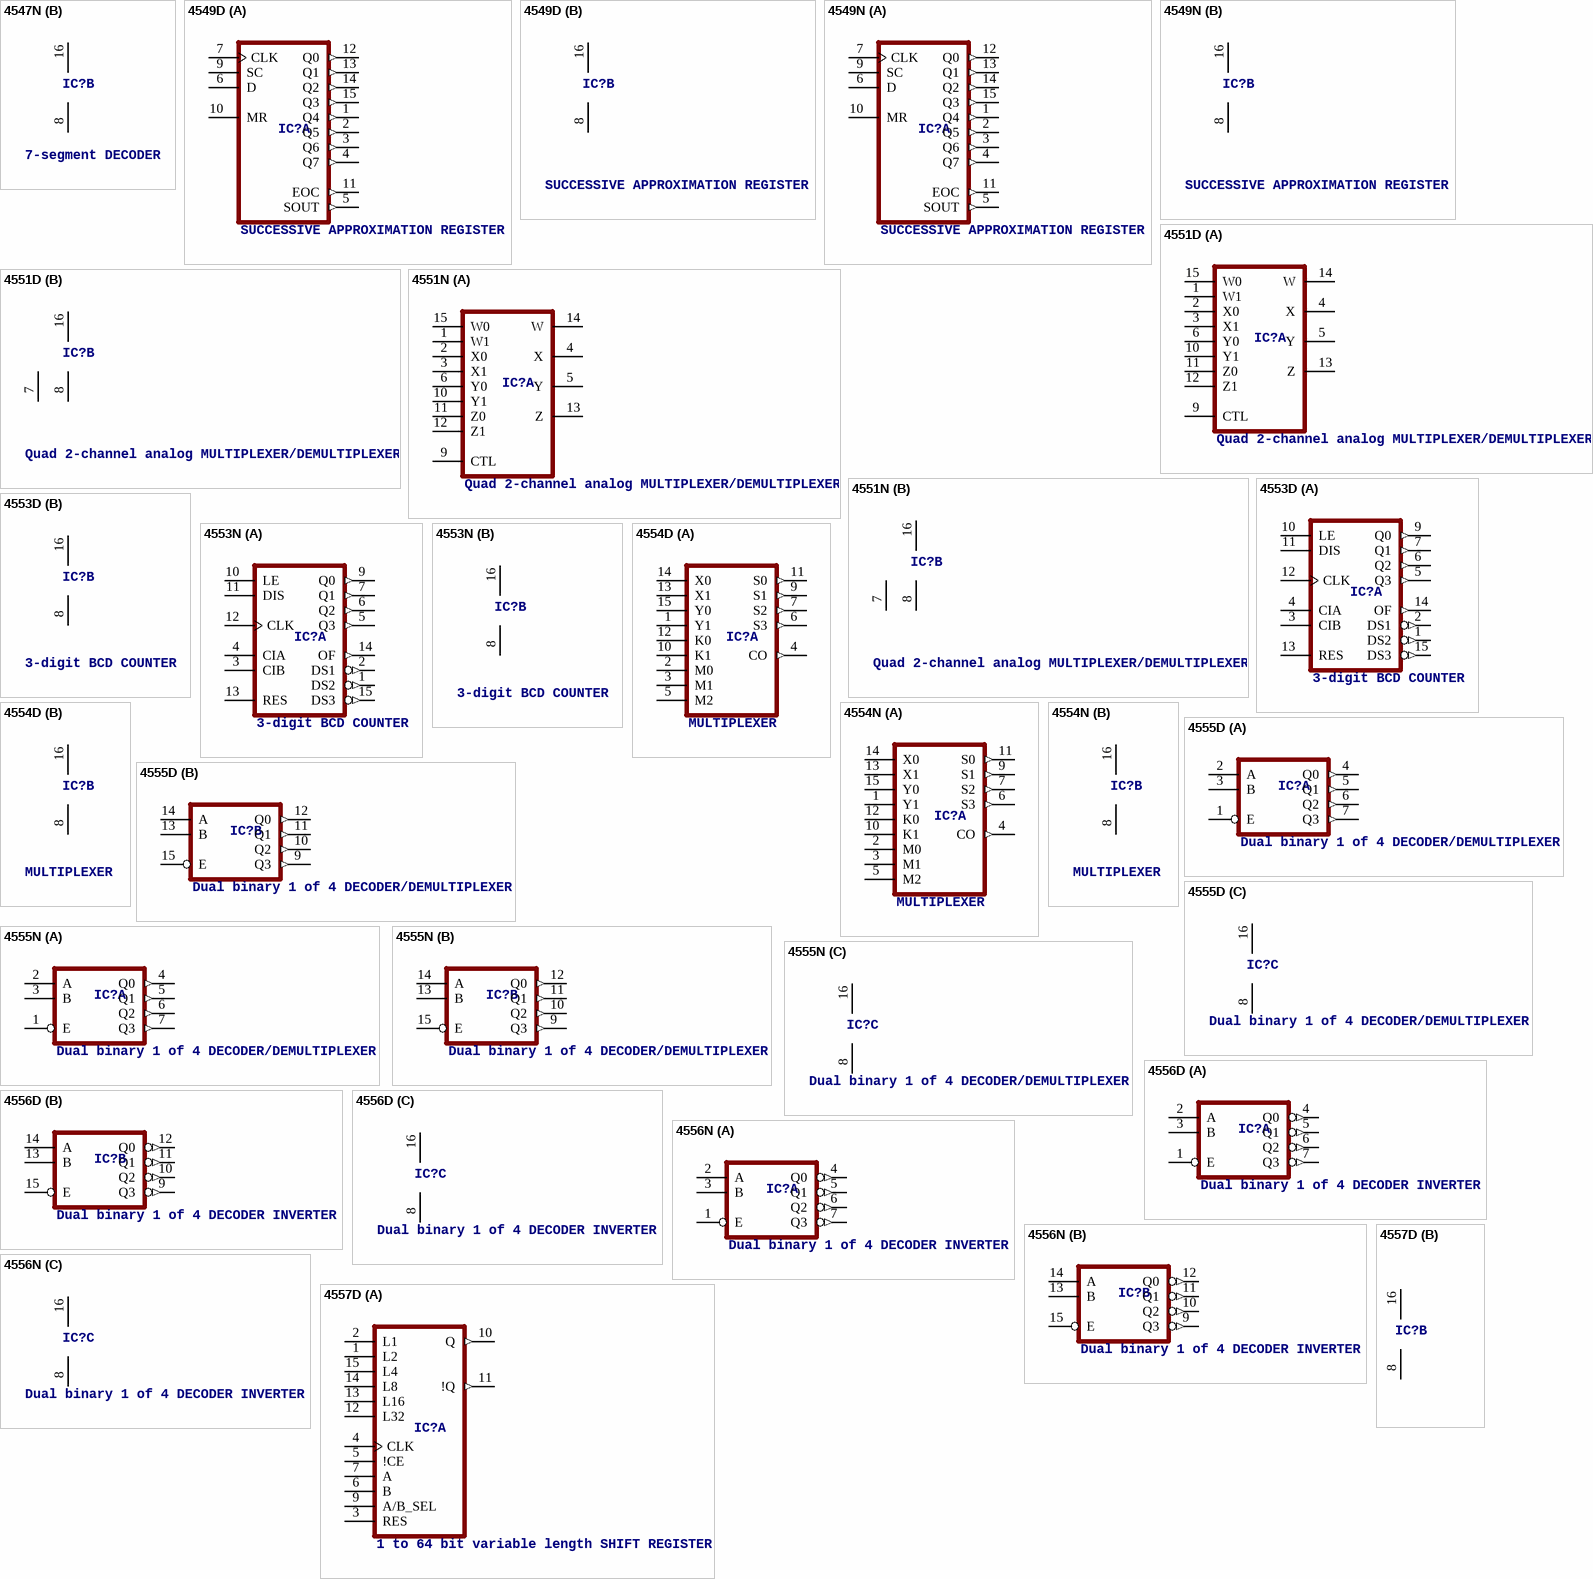
[diagram p5: symbols 4547N to 4557D]

## 4547N
designator IC?, comment 7-segment DECODER
footprint DIL16
part A pins: 1 IB, 2 IC, 4 BI, 6 ID, 7 IA, 9 E (out), 10 D (out), 11 C (out), 12 B (out), 13 A (out), 14 G (out), 15 F (out)
part B pins: 8 VSS (power), 16 VDD (power)

## 4549D
designator IC?, comment SUCCESSIVE APPROXIMATION REGISTER
footprint SO16
part A pins: 1 Q4 (out), 2 Q5 (out), 3 Q6 (out), 4 Q7 (out), 5 SOUT (out), 6 D, 7 CLK, 9 SC, 10 MR, 11 EOC (out), 12 Q0 (out), 13 Q1 (out), 14 Q2 (out), 15 Q3 (out)
part B pins: 8 VSS (power), 16 VDD (power)

## 4549N
designator IC?, comment SUCCESSIVE APPROXIMATION REGISTER
footprint DIL16
part A pins: 1 Q4 (out), 2 Q5 (out), 3 Q6 (out), 4 Q7 (out), 5 SOUT (out), 6 D, 7 CLK, 9 SC, 10 MR, 11 EOC (out), 12 Q0 (out), 13 Q1 (out), 14 Q2 (out), 15 Q3 (out)
part B pins: 8 VSS (power), 16 VDD (power)

## 4551D
designator IC?, comment Quad 2-channel analog MULTIPLEXER/DEMULTIPLEXER
footprint SO16
part A pins: 1 W1, 2 X0, 3 X1, 4 X, 5 Y, 6 Y0, 9 CTL, 10 Y1, 11 Z0, 12 Z1, 13 Z, 14 W, 15 W0
part B pins: 7 VEE (power), 8 GND (power), 16 VCC (power)

## 4551N
designator IC?, comment Quad 2-channel analog MULTIPLEXER/DEMULTIPLEXER
footprint DIL16
part A pins: 1 W1, 2 X0, 3 X1, 4 X, 5 Y, 6 Y0, 9 CTL, 10 Y1, 11 Z0, 12 Z1, 13 Z, 14 W, 15 W0
part B pins: 7 VEE (power), 8 GND (power), 16 VCC (power)

## 4553D
designator IC?, comment 3-digit BCD COUNTER
footprint SO16
part A pins: 1 DS2 (out), 2 DS1 (out), 3 CIB, 4 CIA, 5 Q3 (out), 6 Q2 (out), 7 Q1 (out), 9 Q0 (out), 10 LE, 11 DIS, 12 CLK, 13 RES, 14 OF (out), 15 DS3 (out)
part B pins: 8 VSS (power), 16 VDD (power)

## 4553N
designator IC?, comment 3-digit BCD COUNTER
footprint DIL16
part A pins: 1 DS2 (out), 2 DS1 (out), 3 CIB, 4 CIA, 5 Q3 (out), 6 Q2 (out), 7 Q1 (out), 9 Q0 (out), 10 LE, 11 DIS, 12 CLK, 13 RES, 14 OF (out), 15 DS3 (out)
part B pins: 8 VSS (power), 16 VDD (power)

## 4554D
designator IC?, comment MULTIPLEXER
footprint SO16
part A pins: 1 Y1, 2 M0, 3 M1, 4 CO (out), 5 M2, 6 S3 (out), 7 S2 (out), 9 S1 (out), 10 K1, 11 S0 (out), 12 K0, 13 X1, 14 X0, 15 Y0
part B pins: 8 VSS (power), 16 VDD (power)

## 4554N
designator IC?, comment MULTIPLEXER
footprint DIL16
part A pins: 1 Y1, 2 M0, 3 M1, 4 CO (out), 5 M2, 6 S3 (out), 7 S2 (out), 9 S1 (out), 10 K1, 11 S0 (out), 12 K0, 13 X1, 14 X0, 15 Y0
part B pins: 8 VSS (power), 16 VDD (power)

## 4555D
designator IC?, comment Dual binary 1 of 4 DECODER/DEMULTIPLEXER
footprint SO16
part A pins: 1 E, 2 A, 3 B, 4 Q0 (out), 5 Q1 (out), 6 Q2 (out), 7 Q3 (out)
part B pins: 9 Q3 (out), 10 Q2 (out), 11 Q1 (out), 12 Q0 (out), 13 B, 14 A, 15 E
part C pins: 8 VSS (power), 16 VDD (power)

## 4555N
designator IC?, comment Dual binary 1 of 4 DECODER/DEMULTIPLEXER
footprint DIL16
part A pins: 1 E, 2 A, 3 B, 4 Q0 (out), 5 Q1 (out), 6 Q2 (out), 7 Q3 (out)
part B pins: 9 Q3 (out), 10 Q2 (out), 11 Q1 (out), 12 Q0 (out), 13 B, 14 A, 15 E
part C pins: 8 VSS (power), 16 VDD (power)

## 4556D
designator IC?, comment Dual binary 1 of 4 DECODER INVERTER
footprint SO16
part A pins: 1 E, 2 A, 3 B, 4 Q0 (out), 5 Q1 (out), 6 Q2 (out), 7 Q3 (out)
part B pins: 9 Q3 (out), 10 Q2 (out), 11 Q1 (out), 12 Q0 (out), 13 B, 14 A, 15 E
part C pins: 8 VSS (power), 16 VDD (power)

## 4556N
designator IC?, comment Dual binary 1 of 4 DECODER INVERTER
footprint DIL16
part A pins: 1 E, 2 A, 3 B, 4 Q0 (out), 5 Q1 (out), 6 Q2 (out), 7 Q3 (out)
part B pins: 9 Q3 (out), 10 Q2 (out), 11 Q1 (out), 12 Q0 (out), 13 B, 14 A, 15 E
part C pins: 8 VSS (power), 16 VDD (power)

## 4557D
designator IC?, comment 1 to 64 bit variable length SHIFT REGISTER
footprint SO16
part A pins: 1 L2, 2 L1, 3 RES, 4 CLK, 5 !CE, 6 B, 7 A, 9 A/B_SEL, 10 Q (out), 11 !Q (out), 12 L32, 13 L16, 14 L8, 15 L4
part B pins: 8 VSS (power), 16 VDD (power)

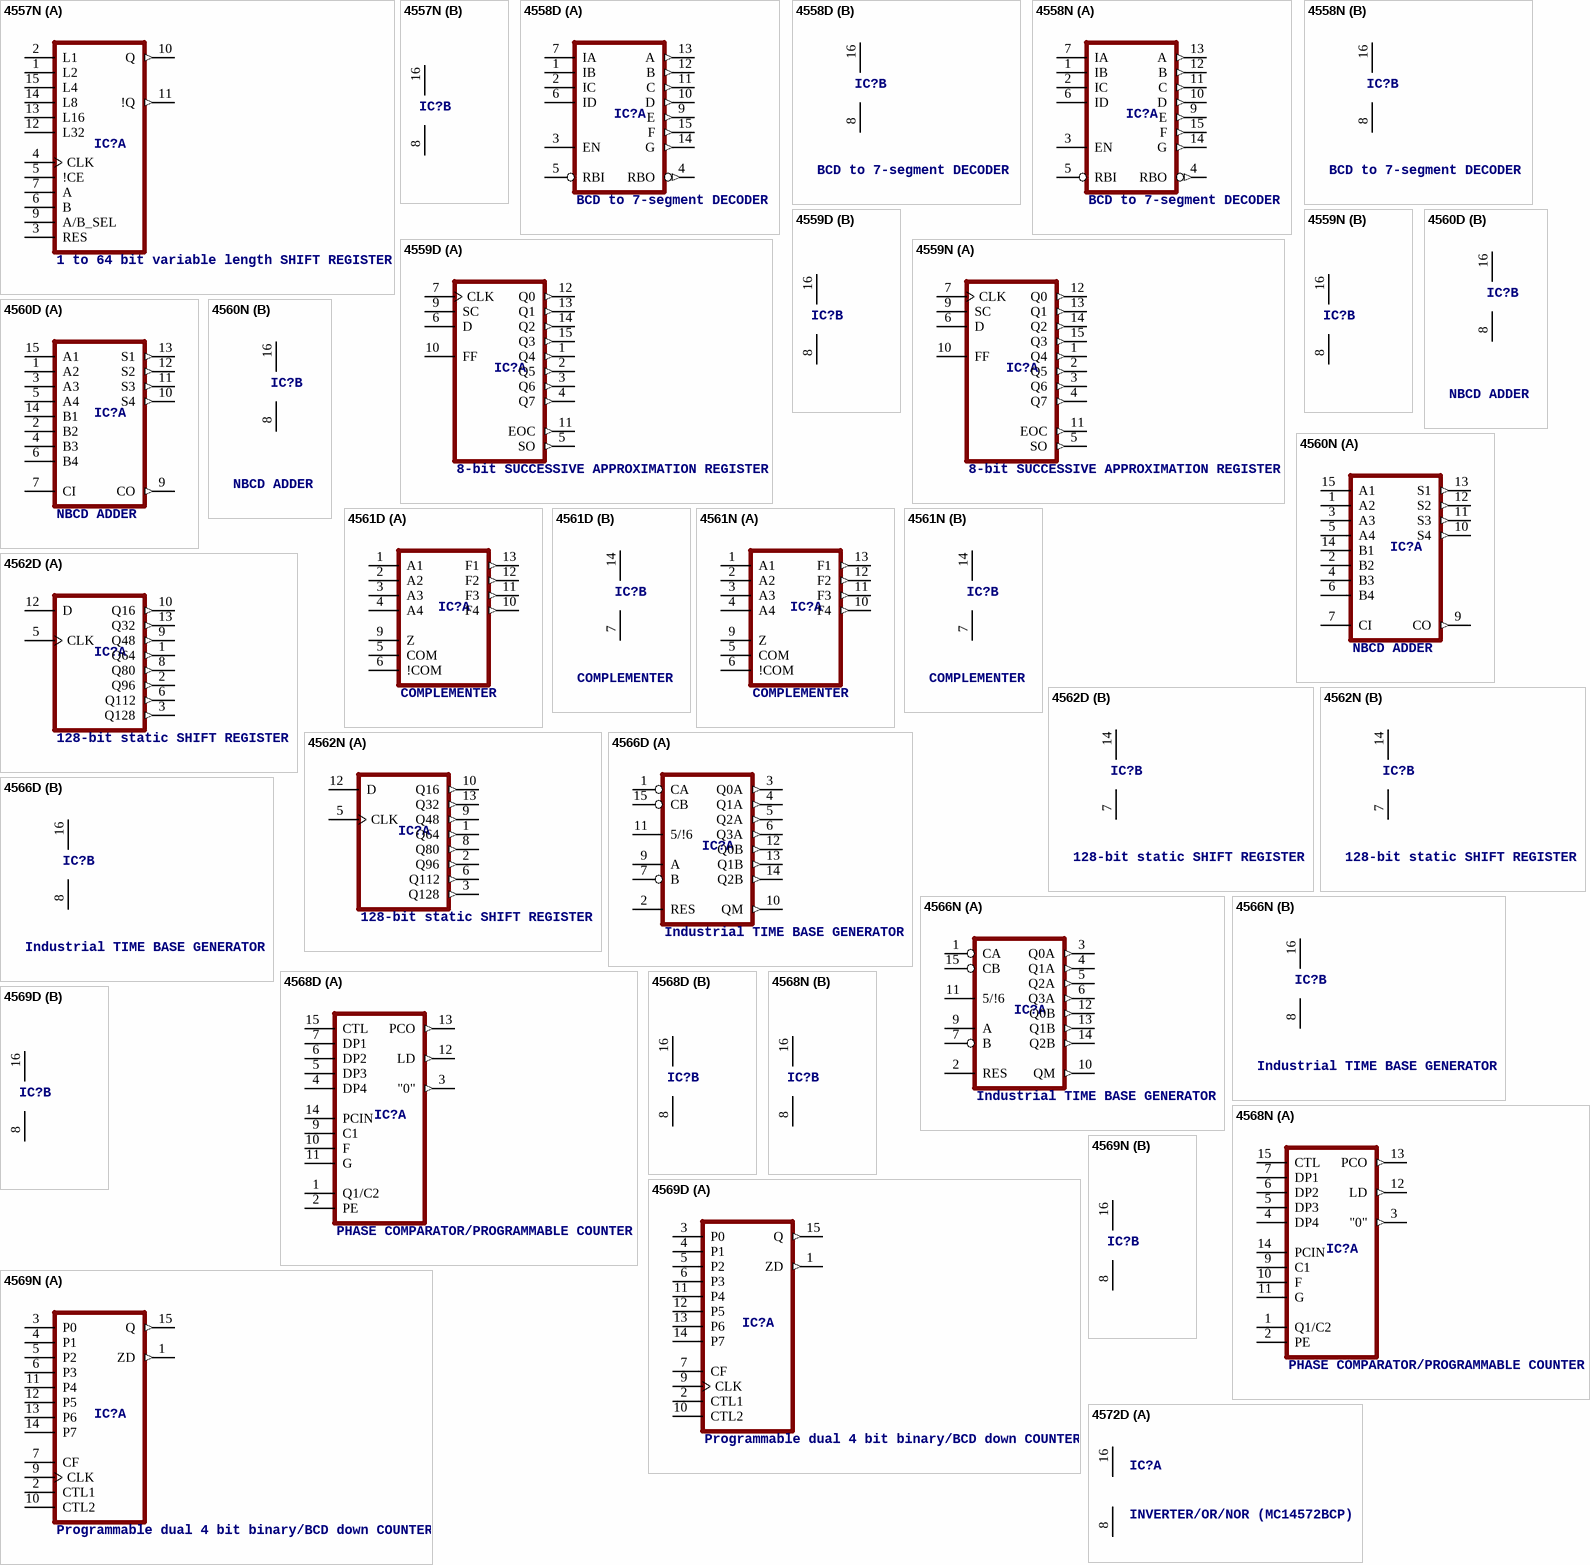
[diagram p6: symbols 4557N to 4572D]

## 4557N
designator IC?, comment 1 to 64 bit variable length SHIFT REGISTER
footprint DIL16
part A pins: 1 L2, 2 L1, 3 RES, 4 CLK, 5 !CE, 6 B, 7 A, 9 A/B_SEL, 10 Q (out), 11 !Q (out), 12 L32, 13 L16, 14 L8, 15 L4
part B pins: 8 VSS (power), 16 VDD (power)

## 4558D
designator IC?, comment BCD to 7-segment DECODER
footprint SO16
part A pins: 1 IB, 2 IC, 3 EN, 4 RBO (out), 5 RBI, 6 ID, 7 IA, 9 E (out), 10 D (out), 11 C (out), 12 B (out), 13 A (out), 14 G (out), 15 F (out)
part B pins: 8 VSS (power), 16 VDD (power)

## 4558N
designator IC?, comment BCD to 7-segment DECODER
footprint DIL16
part A pins: 1 IB, 2 IC, 3 EN, 4 RBO (out), 5 RBI, 6 ID, 7 IA, 9 E (out), 10 D (out), 11 C (out), 12 B (out), 13 A (out), 14 G (out), 15 F (out)
part B pins: 8 VSS (power), 16 VDD (power)

## 4559D
designator IC?, comment 8-bit SUCCESSIVE APPROXIMATION REGISTER
footprint SO16
part A pins: 1 Q4 (out), 2 Q5 (out), 3 Q6 (out), 4 Q7 (out), 5 SO (out), 6 D, 7 CLK, 9 SC, 10 FF, 11 EOC (out), 12 Q0 (out), 13 Q1 (out), 14 Q2 (out), 15 Q3 (out)
part B pins: 8 VSS (power), 16 VDD (power)

## 4559N
designator IC?, comment 8-bit SUCCESSIVE APPROXIMATION REGISTER
footprint DIL16
part A pins: 1 Q4 (out), 2 Q5 (out), 3 Q6 (out), 4 Q7 (out), 5 SO (out), 6 D, 7 CLK, 9 SC, 10 FF, 11 EOC (out), 12 Q0 (out), 13 Q1 (out), 14 Q2 (out), 15 Q3 (out)
part B pins: 8 VSS (power), 16 VDD (power)

## 4560D
designator IC?, comment NBCD ADDER
footprint SO16
part A pins: 1 A2, 2 B2, 3 A3, 4 B3, 5 A4, 6 B4, 7 CI, 9 CO (out), 10 S4 (out), 11 S3 (out), 12 S2 (out), 13 S1 (out), 14 B1, 15 A1
part B pins: 8 VSS (power), 16 VDD (power)

## 4560N
designator IC?, comment NBCD ADDER
footprint DIL16
part A pins: 1 A2, 2 B2, 3 A3, 4 B3, 5 A4, 6 B4, 7 CI, 9 CO (out), 10 S4 (out), 11 S3 (out), 12 S2 (out), 13 S1 (out), 14 B1, 15 A1
part B pins: 8 VSS (power), 16 VDD (power)

## 4561D
designator IC?, comment COMPLEMENTER
footprint SO14
part A pins: 1 A1, 2 A2, 3 A3, 4 A4, 5 COM, 6 !COM, 9 Z, 10 F4 (out), 11 F3 (out), 12 F2 (out), 13 F1 (out)
part B pins: 7 VSS (power), 14 VDD (power)

## 4561N
designator IC?, comment COMPLEMENTER
footprint DIL14
part A pins: 1 A1, 2 A2, 3 A3, 4 A4, 5 COM, 6 !COM, 9 Z, 10 F4 (out), 11 F3 (out), 12 F2 (out), 13 F1 (out)
part B pins: 7 VSS (power), 14 VDD (power)

## 4562D
designator IC?, comment 128-bit static SHIFT REGISTER
footprint SO14
part A pins: 1 Q64 (out), 2 Q96 (out), 3 Q128 (out), 5 CLK, 6 Q112 (out), 8 Q80 (out), 9 Q48 (out), 10 Q16 (out), 12 D, 13 Q32 (out)
part B pins: 7 VSS (power), 14 VDD (power)

## 4562N
designator IC?, comment 128-bit static SHIFT REGISTER
footprint DIL14
part A pins: 1 Q64 (out), 2 Q96 (out), 3 Q128 (out), 5 CLK, 6 Q112 (out), 8 Q80 (out), 9 Q48 (out), 10 Q16 (out), 12 D, 13 Q32 (out)
part B pins: 7 VSS (power), 14 VDD (power)

## 4566D
designator IC?, comment Industrial TIME BASE GENERATOR
footprint SO16
part A pins: 1 CA, 2 RES, 3 Q0A (out), 4 Q1A (out), 5 Q2A (out), 6 Q3A (out), 7 B, 9 A, 10 QM (out), 11 5/!6, 12 Q0B (out), 13 Q1B (out), 14 Q2B (out), 15 CB
part B pins: 8 VSS (power), 16 VDD (power)

## 4566N
designator IC?, comment Industrial TIME BASE GENERATOR
footprint DIL16
part A pins: 1 CA, 2 RES, 3 Q0A (out), 4 Q1A (out), 5 Q2A (out), 6 Q3A (out), 7 B, 9 A, 10 QM (out), 11 5/!6, 12 Q0B (out), 13 Q1B (out), 14 Q2B (out), 15 CB
part B pins: 8 VSS (power), 16 VDD (power)

## 4568D
designator IC?, comment PHASE COMPARATOR/PROGRAMMABLE COUNTER
footprint SO16
part A pins: 1 Q1/C2, 2 PE, 3 "0" (out), 4 DP4, 5 DP3, 6 DP2, 7 DP1, 9 C1, 10 F, 11 G, 12 LD (out), 13 PCO (out), 14 PCIN, 15 CTL
part B pins: 8 VSS (power), 16 VDD (power)

## 4568N
designator IC?, comment PHASE COMPARATOR/PROGRAMMABLE COUNTER
footprint DIL16
part A pins: 1 Q1/C2, 2 PE, 3 "0" (out), 4 DP4, 5 DP3, 6 DP2, 7 DP1, 9 C1, 10 F, 11 G, 12 LD (out), 13 PCO (out), 14 PCIN, 15 CTL
part B pins: 8 VSS (power), 16 VDD (power)

## 4569D
designator IC?, comment Programmable dual 4 bit binary/BCD down COUNTER
footprint SO16
part A pins: 1 ZD (out), 2 CTL1, 3 P0, 4 P1, 5 P2, 6 P3, 7 CF, 9 CLK, 10 CTL2, 11 P4, 12 P5, 13 P6, 14 P7, 15 Q (out)
part B pins: 8 VSS (power), 16 VDD (power)

## 4569N
designator IC?, comment Programmable dual 4 bit binary/BCD down COUNTER
footprint DIL16
part A pins: 1 ZD (out), 2 CTL1, 3 P0, 4 P1, 5 P2, 6 P3, 7 CF, 9 CLK, 10 CTL2, 11 P4, 12 P5, 13 P6, 14 P7, 15 Q (out)
part B pins: 8 VSS (power), 16 VDD (power)

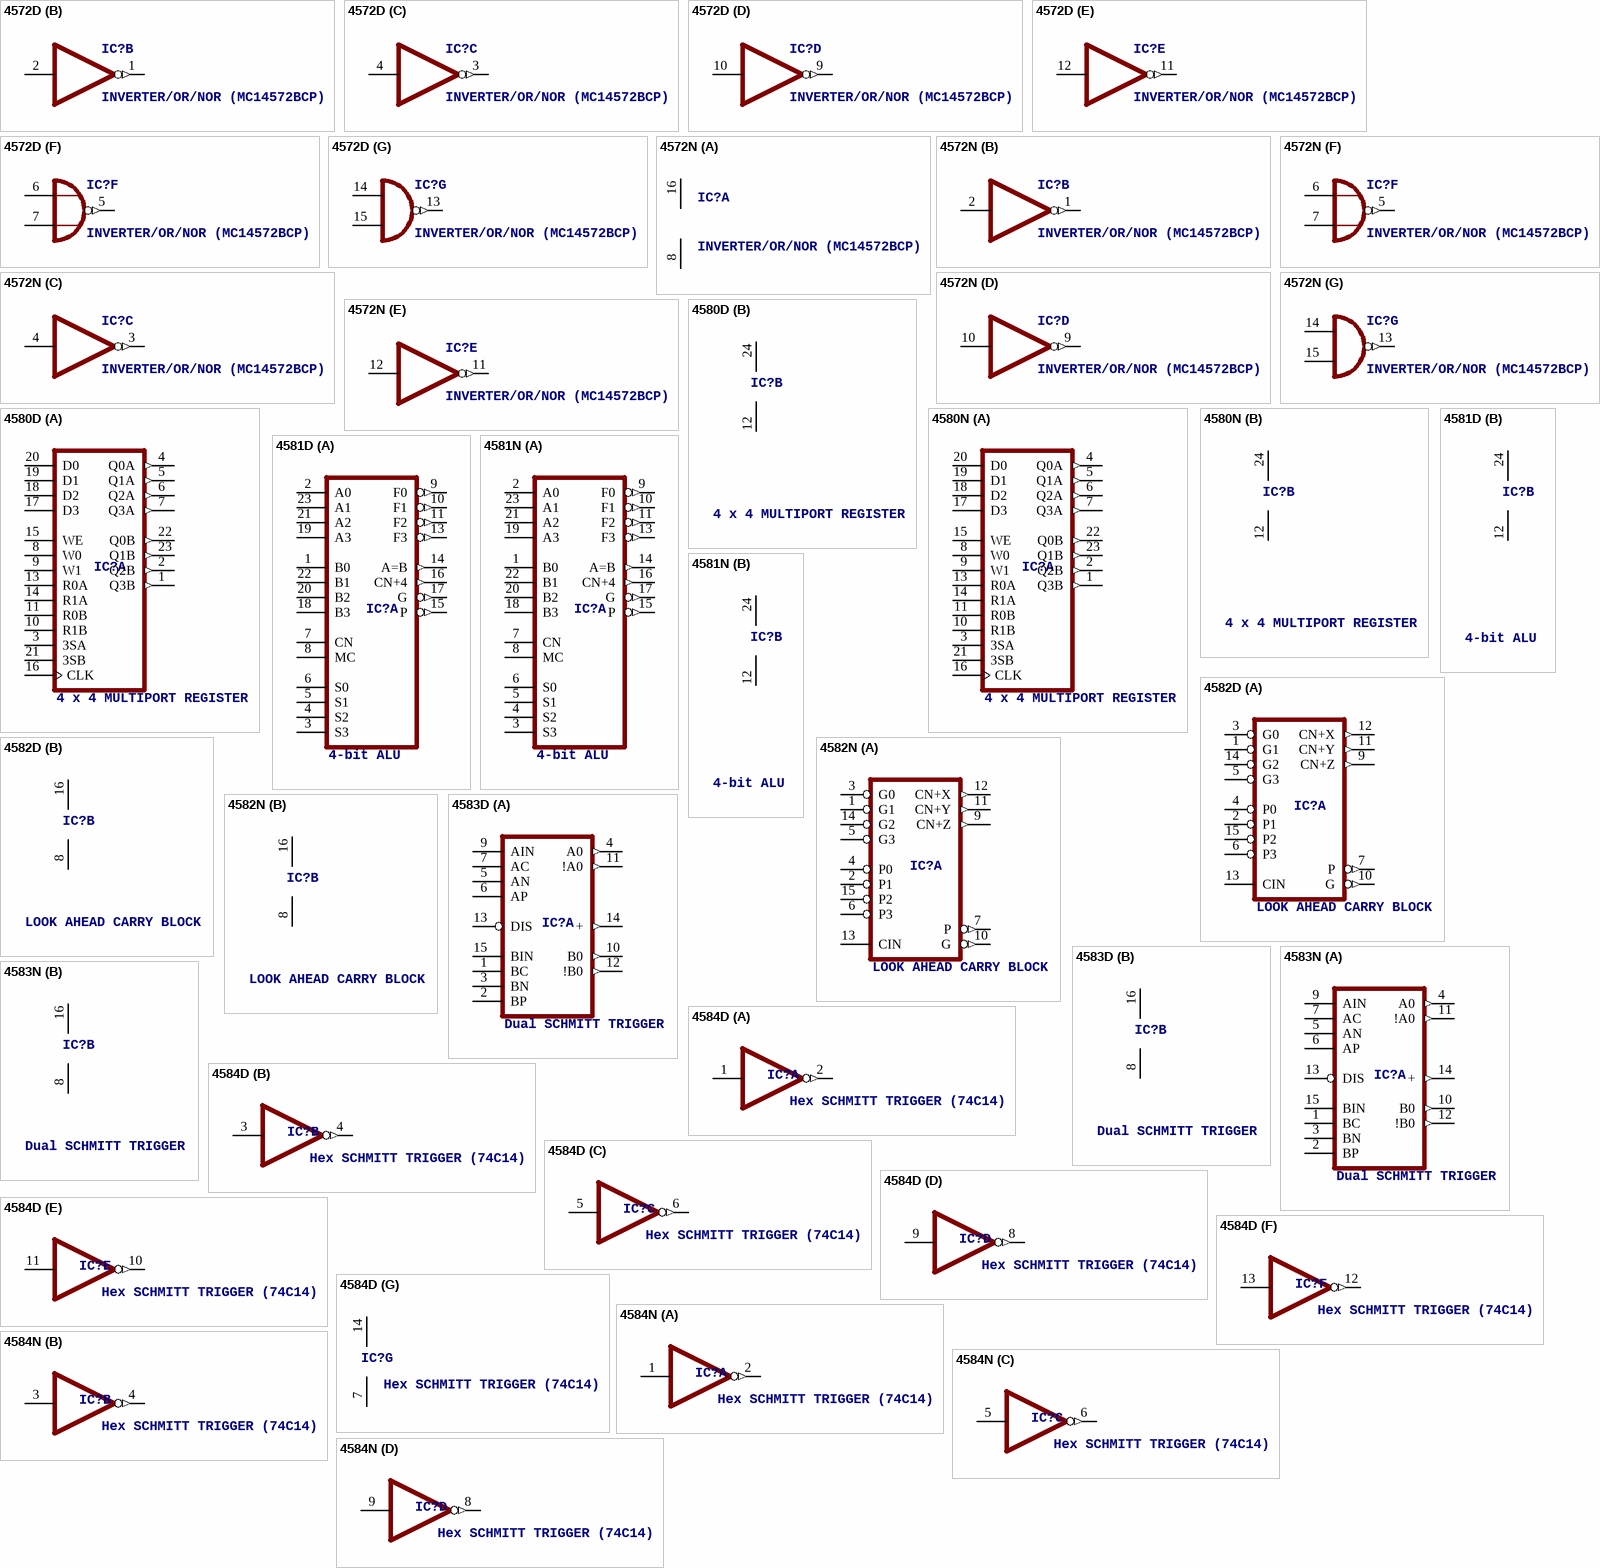
[diagram p7: symbols 4572D to 4584N]

## 4572D
designator IC?, comment INVERTER/OR/NOR (MC14572BCP)
footprint SO16
part A pins: 8 VSS (power), 16 VDD (power)
part B pins: 1 O (out), 2 I
part C pins: 3 O (out), 4 I
part D pins: 9 O (out), 10 I
part E pins: 11 O (out), 12 I
part F pins: 5 O (out), 6 I0, 7 I1
part G pins: 13 O (out), 14 I0, 15 I1

## 4572N
designator IC?, comment INVERTER/OR/NOR (MC14572BCP)
footprint DIL16
part A pins: 8 VSS (power), 16 VDD (power)
part B pins: 1 O (out), 2 I
part C pins: 3 O (out), 4 I
part D pins: 9 O (out), 10 I
part E pins: 11 O (out), 12 I
part F pins: 5 O (out), 6 I0, 7 I1
part G pins: 13 O (out), 14 I0, 15 I1

## 4580D
designator IC?, comment 4 x 4 MULTIPORT REGISTER
footprint SO24W
part A pins: 1 Q3B (out), 2 Q2B (out), 3 3SA, 4 Q0A (out), 5 Q1A (out), 6 Q2A (out), 7 Q3A (out), 8 W0, 9 W1, 10 R1B, 11 R0B, 13 R0A, 14 R1A, 15 WE, 16 CLK, 17 D3, 18 D2, 19 D1, 20 D0, 21 3SB, 22 Q0B (out), 23 Q1B (out)
part B pins: 12 VSS (power), 24 VDD (power)

## 4580N
designator IC?, comment 4 x 4 MULTIPORT REGISTER
footprint DIL24-6
part A pins: 1 Q3B (out), 2 Q2B (out), 3 3SA, 4 Q0A (out), 5 Q1A (out), 6 Q2A (out), 7 Q3A (out), 8 W0, 9 W1, 10 R1B, 11 R0B, 13 R0A, 14 R1A, 15 WE, 16 CLK, 17 D3, 18 D2, 19 D1, 20 D0, 21 3SB, 22 Q0B (out), 23 Q1B (out)
part B pins: 12 VSS (power), 24 VDD (power)

## 4581D
designator IC?, comment 4-bit ALU
footprint SO24W
part A pins: 1 B0, 2 A0, 3 S3, 4 S2, 5 S1, 6 S0, 7 CN, 8 MC, 9 F0 (out), 10 F1 (out), 11 F2 (out), 13 F3 (out), 14 A=B (out), 15 P (out), 16 CN+4 (out), 17 G (out), 18 B3, 19 A3, 20 B2, 21 A2, 22 B1, 23 A1
part B pins: 12 VSS (power), 24 VDD (power)

## 4581N
designator IC?, comment 4-bit ALU
footprint DIL24-6
part A pins: 1 B0, 2 A0, 3 S3, 4 S2, 5 S1, 6 S0, 7 CN, 8 MC, 9 F0 (out), 10 F1 (out), 11 F2 (out), 13 F3 (out), 14 A=B (out), 15 P (out), 16 CN+4 (out), 17 G (out), 18 B3, 19 A3, 20 B2, 21 A2, 22 B1, 23 A1
part B pins: 12 VSS (power), 24 VDD (power)

## 4582D
designator IC?, comment LOOK AHEAD CARRY BLOCK
footprint SO16
part A pins: 1 G1, 2 P1, 3 G0, 4 P0, 5 G3, 6 P3, 7 P (out), 9 CN+Z (out), 10 G (out), 11 CN+Y (out), 12 CN+X (out), 13 CIN, 14 G2, 15 P2
part B pins: 8 VSS (power), 16 VDD (power)

## 4582N
designator IC?, comment LOOK AHEAD CARRY BLOCK
footprint DIL16
part A pins: 1 G1, 2 P1, 3 G0, 4 P0, 5 G3, 6 P3, 7 P (out), 9 CN+Z (out), 10 G (out), 11 CN+Y (out), 12 CN+X (out), 13 CIN, 14 G2, 15 P2
part B pins: 8 VSS (power), 16 VDD (power)

## 4583D
designator IC?, comment Dual SCHMITT TRIGGER
footprint SO16
part A pins: 1 BC, 2 BP, 3 BN, 4 A0 (out), 5 AN, 6 AP, 7 AC, 9 AIN, 10 B0 (out), 11 !A0 (out), 12 !B0 (out), 13 DIS, 14 + (out), 15 BIN
part B pins: 8 VSS (power), 16 VDD (power)

## 4583N
designator IC?, comment Dual SCHMITT TRIGGER
footprint DIL16
part A pins: 1 BC, 2 BP, 3 BN, 4 A0 (out), 5 AN, 6 AP, 7 AC, 9 AIN, 10 B0 (out), 11 !A0 (out), 12 !B0 (out), 13 DIS, 14 + (out), 15 BIN
part B pins: 8 VSS (power), 16 VDD (power)

## 4584D
designator IC?, comment Hex SCHMITT TRIGGER (74C14)
footprint SO14
part A pins: 1 I, 2 O (out)
part B pins: 3 I, 4 O (out)
part C pins: 5 I, 6 O (out)
part D pins: 8 O (out), 9 I
part E pins: 10 O (out), 11 I
part F pins: 12 O (out), 13 I
part G pins: 7 VSS (power), 14 VDD (power)

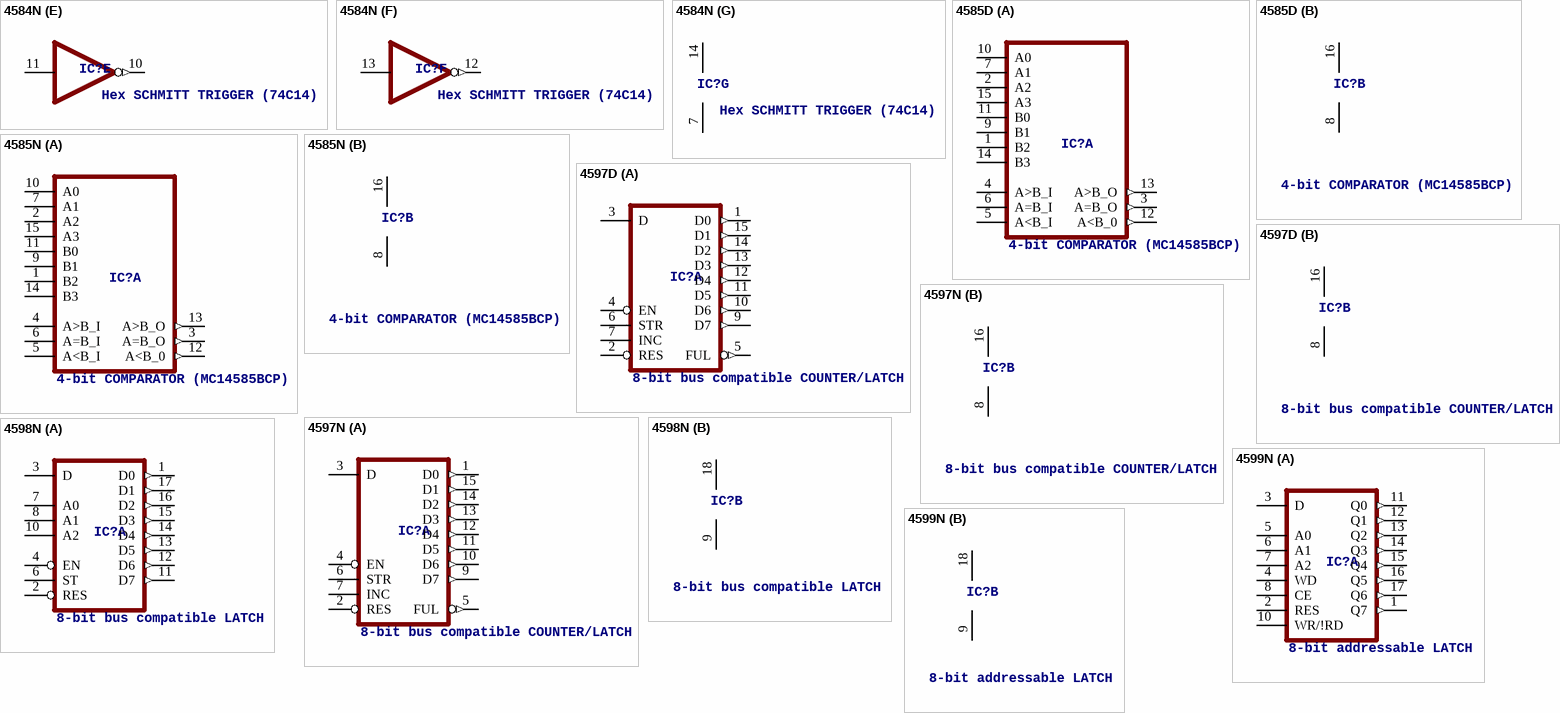
[diagram p8: symbols 4584N to 4599N]

## 4584N
designator IC?, comment Hex SCHMITT TRIGGER (74C14)
footprint DIL14
part A pins: 1 I, 2 O (out)
part B pins: 3 I, 4 O (out)
part C pins: 5 I, 6 O (out)
part D pins: 8 O (out), 9 I
part E pins: 10 O (out), 11 I
part F pins: 12 O (out), 13 I
part G pins: 7 VSS (power), 14 VDD (power)

## 4585D
designator IC?, comment 4-bit COMPARATOR (MC14585BCP)
footprint SO16
part A pins: 1 B2, 2 A2, 3 A=B_O (out), 4 A>B_I, 5 A<B_I, 6 A=B_I, 7 A1, 9 B1, 10 A0, 11 B0, 12 A<B_0 (out), 13 A>B_O (out), 14 B3, 15 A3
part B pins: 8 VSS (power), 16 VDD (power)

## 4585N
designator IC?, comment 4-bit COMPARATOR (MC14585BCP)
footprint DIL16
part A pins: 1 B2, 2 A2, 3 A=B_O (out), 4 A>B_I, 5 A<B_I, 6 A=B_I, 7 A1, 9 B1, 10 A0, 11 B0, 12 A<B_0 (out), 13 A>B_O (out), 14 B3, 15 A3
part B pins: 8 VSS (power), 16 VDD (power)

## 4597D
designator IC?, comment 8-bit bus compatible COUNTER/LATCH
footprint SO16
part A pins: 1 D0 (out), 2 RES, 3 D, 4 EN, 5 FUL (out), 6 STR, 7 INC, 9 D7 (out), 10 D6 (out), 11 D5 (out), 12 D4 (out), 13 D3 (out), 14 D2 (out), 15 D1 (out)
part B pins: 8 VSS (power), 16 VDD (power)

## 4597N
designator IC?, comment 8-bit bus compatible COUNTER/LATCH
footprint DIL16
part A pins: 1 D0 (out), 2 RES, 3 D, 4 EN, 5 FUL (out), 6 STR, 7 INC, 9 D7 (out), 10 D6 (out), 11 D5 (out), 12 D4 (out), 13 D3 (out), 14 D2 (out), 15 D1 (out)
part B pins: 8 VSS (power), 16 VDD (power)

## 4598N
designator IC?, comment 8-bit bus compatible LATCH
footprint DIL18
part A pins: 1 D0 (out), 2 RES, 3 D, 4 EN, 6 ST, 7 A0, 8 A1, 10 A2, 11 D7 (out), 12 D6 (out), 13 D5 (out), 14 D4 (out), 15 D3 (out), 16 D2 (out), 17 D1 (out)
part B pins: 9 VSS (power), 18 VDD (power)

## 4599N
designator IC?, comment 8-bit addressable LATCH
footprint DIL18
part A pins: 1 Q7 (out), 2 RES, 3 D, 4 WD, 5 A0, 6 A1, 7 A2, 8 CE, 10 WR/!RD, 11 Q0 (out), 12 Q1 (out), 13 Q2 (out), 14 Q3 (out), 15 Q4 (out), 16 Q5 (out), 17 Q6 (out)
part B pins: 9 VSS (power), 18 VDD (power)